# Altium integrated library Actel ACT 3.IntLib: 167 symbols (part 6 of 11)
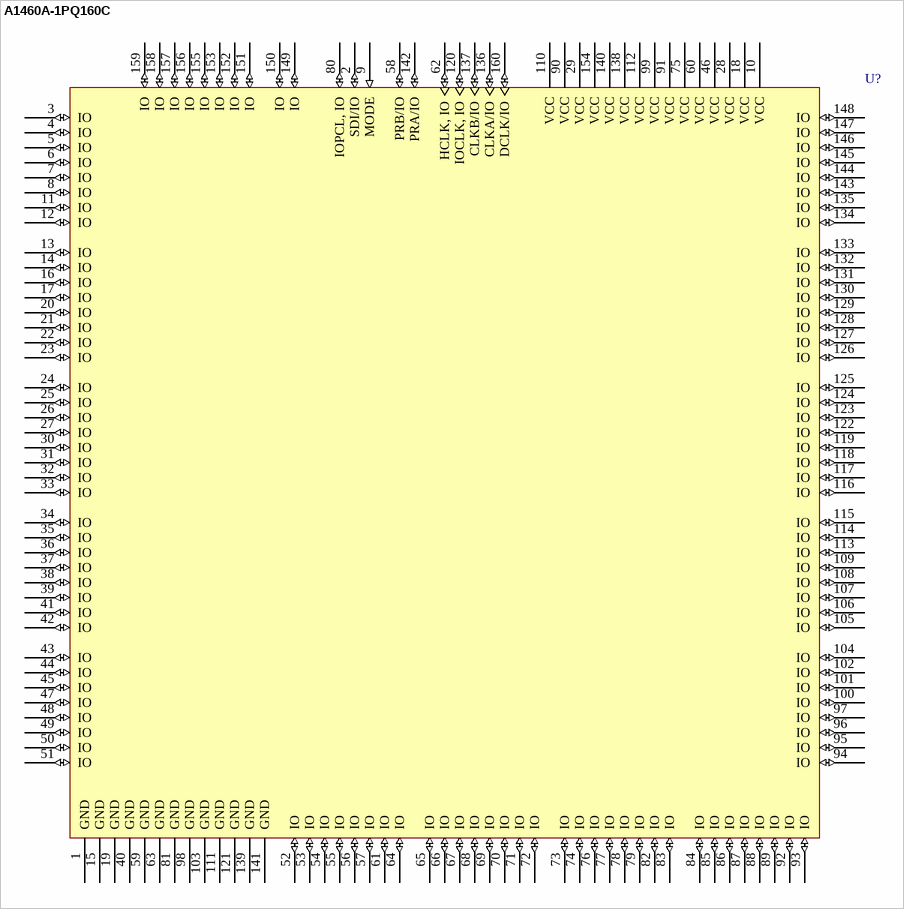
[diagram p116: symbol A1460A-1PQ160C]

## A1460A-1PQ160C
designator U?
ACT 3 Series 5V FPGA, 131 User I/Os, 160 pin PQFP, Speed Grade 1, Commercial Grade; Published: 24-Nov-2000; LatestRevisionDate: 13-Apr-2006; LatestRevisionNote: IPC-7351 Footprint Added.; DatasheetVersion: Sep-1997; PackageVersion: v9.2, Apr-2006; PackageReference: PQ160; Publisher: Altium Limited; PackageDescription: 160-Pin Plastic Quad Flat Pack (PQ160); Code_JEDEC: MS-022-DD-1; Code_IPC: QFP65P3120X3120-160; ComponentLink1Description: Manufacturer Link; ComponentLink1URL: http://www.actel.com/; ComponentLink2Description: DataSheet; ComponentLink2URL: http://www.actel.com/documents/ACT3DS.pdf
footprint PQ160_N (QFP, 160-Leads, Body 28 x 28mm, Pitch 0.65mm, IPC Medium Density)
footprint PQ160_L (QFP, 160-Leads, Body 28 x 28mm, Pitch 0.65mm, IPC High Density)
footprint PQ160_M (QFP, 160-Leads, Body 28 x 28mm, Pitch 0.65mm, IPC Low Density)
3D model A1460A-PQ160 (160-Pin Plastic Quad Flat Pack (PQ160))
pins: 1 GND (power), 2 SDI/IO (io), 3 IO (io), 4 IO (io), 5 IO (io), 6 IO (io), 7 IO (io), 8 IO (io), 9 MODE (in), 10 VCC (power), 11 IO (io), 12 IO (io), 13 IO (io), 14 IO (io), 15 GND (power), 16 IO (io), 17 IO (io), 18 VCC (power), 19 GND (power), 20 IO (io), 21 IO (io), 22 IO (io), 23 IO (io), 24 IO (io), 25 IO (io), 26 IO (io), 27 IO (io), 28 VCC (power), 29 VCC (power), 30 IO (io), 31 IO (io), 32 IO (io), 33 IO (io), 34 IO (io), 35 IO (io), 36 IO (io), 37 IO (io), 38 IO (io), 39 IO (io), 40 GND (power), 41 IO (io), 42 IO (io), 43 IO (io), 44 IO (io), 45 IO (io), 46 VCC (power), 47 IO (io), 48 IO (io), 49 IO (io), 50 IO (io), 51 IO (io), 52 IO (io), 53 IO (io), 54 IO (io), 55 IO (io), 56 IO (io), 57 IO (io), 58 PRB/IO (io), 59 GND (power), 60 VCC (power), 61 IO (io), 62 HCLK, IO (io), 63 GND (power), 64 IO (io), 65 IO (io), 66 IO (io), 67 IO (io), 68 IO (io), 69 IO (io), 70 IO (io), 71 IO (io), 72 IO (io), 73 IO (io), 74 IO (io), 75 VCC (power), 76 IO (io), 77 IO (io), 78 IO (io), 79 IO (io), 80 IOPCL, IO (io), 81 GND (power), 82 IO (io), 83 IO (io), 84 IO (io), 85 IO (io), 86 IO (io), 87 IO (io), 88 IO (io), 89 IO (io), 90 VCC (power), 91 VCC (power), 92 IO (io), 93 IO (io), 94 IO (io), 95 IO (io), 96 IO (io), 97 IO (io), 98 GND (power), 99 VCC (power), 100 IO (io), 101 IO (io), 102 IO (io), 103 GND (power), 104 IO (io), 105 IO (io), 106 IO (io), 107 IO (io), 108 IO (io), 109 IO (io), 110 VCC (power), 111 GND (power), 112 VCC (power), 113 IO (io), 114 IO (io), 115 IO (io), 116 IO (io), 117 IO (io), 118 IO (io), 119 IO (io), 120 IOCLK, IO (io), 121 GND (power), 122 IO (io), 123 IO (io), 124 IO (io), 125 IO (io), 126 IO (io), 127 IO (io), 128 IO (io), 129 IO (io), 130 IO (io), 131 IO (io), 132 IO (io), 133 IO (io), 134 IO (io), 135 IO (io), 136 CLKA/IO (io), 137 CLKB/IO (io), 138 VCC (power), 139 GND (power), 140 VCC (power), 141 GND (power), 142 PRA/IO (io), 143 IO (io), 144 IO (io), 145 IO (io), 146 IO (io), 147 IO (io), 148 IO (io), 149 IO (io), 150 IO (io), 151 IO (io), 152 IO (io), 153 IO (io), 154 VCC (power), 155 IO (io), 156 IO (io), 157 IO (io), 158 IO (io), 159 IO (io), 160 DCLK/IO (io)

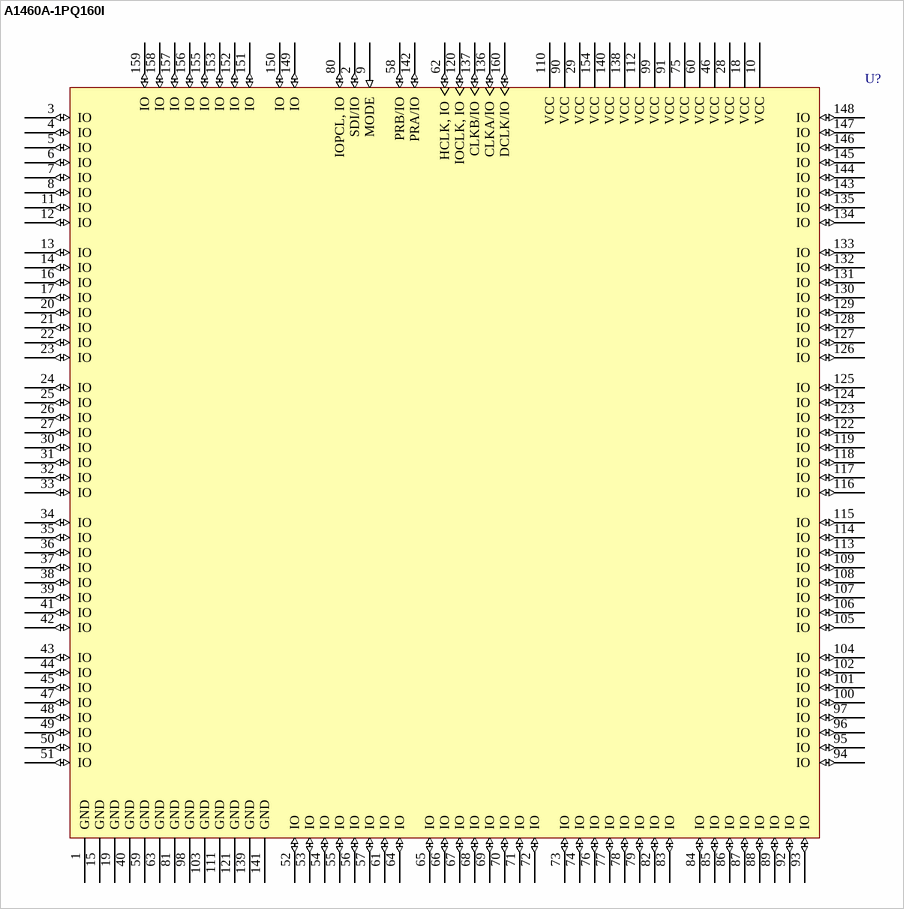
[diagram p40: symbol A1460A-1PQ160I]

## A1460A-1PQ160I
designator U?
ACT 3 Series 5V FPGA, 131 User I/Os, 160 pin PQFP, Speed Grade 1, Industrial Grade; Published: 24-Nov-2000; LatestRevisionDate: 13-Apr-2006; LatestRevisionNote: IPC-7351 Footprint Added.; DatasheetVersion: Sep-1997; PackageVersion: v9.2, Apr-2006; PackageReference: PQ160; Publisher: Altium Limited; PackageDescription: 160-Pin Plastic Quad Flat Pack (PQ160); Code_JEDEC: MS-022-DD-1; Code_IPC: QFP65P3120X3120-160; ComponentLink1Description: Manufacturer Link; ComponentLink1URL: http://www.actel.com/; ComponentLink2Description: DataSheet; ComponentLink2URL: http://www.actel.com/documents/ACT3DS.pdf
footprint PQ160_N (QFP, 160-Leads, Body 28 x 28mm, Pitch 0.65mm, IPC Medium Density)
footprint PQ160_L (QFP, 160-Leads, Body 28 x 28mm, Pitch 0.65mm, IPC High Density)
footprint PQ160_M (QFP, 160-Leads, Body 28 x 28mm, Pitch 0.65mm, IPC Low Density)
3D model A1460A-PQ160 (160-Pin Plastic Quad Flat Pack (PQ160))
pins: 1 GND (power), 2 SDI/IO (io), 3 IO (io), 4 IO (io), 5 IO (io), 6 IO (io), 7 IO (io), 8 IO (io), 9 MODE (in), 10 VCC (power), 11 IO (io), 12 IO (io), 13 IO (io), 14 IO (io), 15 GND (power), 16 IO (io), 17 IO (io), 18 VCC (power), 19 GND (power), 20 IO (io), 21 IO (io), 22 IO (io), 23 IO (io), 24 IO (io), 25 IO (io), 26 IO (io), 27 IO (io), 28 VCC (power), 29 VCC (power), 30 IO (io), 31 IO (io), 32 IO (io), 33 IO (io), 34 IO (io), 35 IO (io), 36 IO (io), 37 IO (io), 38 IO (io), 39 IO (io), 40 GND (power), 41 IO (io), 42 IO (io), 43 IO (io), 44 IO (io), 45 IO (io), 46 VCC (power), 47 IO (io), 48 IO (io), 49 IO (io), 50 IO (io), 51 IO (io), 52 IO (io), 53 IO (io), 54 IO (io), 55 IO (io), 56 IO (io), 57 IO (io), 58 PRB/IO (io), 59 GND (power), 60 VCC (power), 61 IO (io), 62 HCLK, IO (io), 63 GND (power), 64 IO (io), 65 IO (io), 66 IO (io), 67 IO (io), 68 IO (io), 69 IO (io), 70 IO (io), 71 IO (io), 72 IO (io), 73 IO (io), 74 IO (io), 75 VCC (power), 76 IO (io), 77 IO (io), 78 IO (io), 79 IO (io), 80 IOPCL, IO (io), 81 GND (power), 82 IO (io), 83 IO (io), 84 IO (io), 85 IO (io), 86 IO (io), 87 IO (io), 88 IO (io), 89 IO (io), 90 VCC (power), 91 VCC (power), 92 IO (io), 93 IO (io), 94 IO (io), 95 IO (io), 96 IO (io), 97 IO (io), 98 GND (power), 99 VCC (power), 100 IO (io), 101 IO (io), 102 IO (io), 103 GND (power), 104 IO (io), 105 IO (io), 106 IO (io), 107 IO (io), 108 IO (io), 109 IO (io), 110 VCC (power), 111 GND (power), 112 VCC (power), 113 IO (io), 114 IO (io), 115 IO (io), 116 IO (io), 117 IO (io), 118 IO (io), 119 IO (io), 120 IOCLK, IO (io), 121 GND (power), 122 IO (io), 123 IO (io), 124 IO (io), 125 IO (io), 126 IO (io), 127 IO (io), 128 IO (io), 129 IO (io), 130 IO (io), 131 IO (io), 132 IO (io), 133 IO (io), 134 IO (io), 135 IO (io), 136 CLKA/IO (io), 137 CLKB/IO (io), 138 VCC (power), 139 GND (power), 140 VCC (power), 141 GND (power), 142 PRA/IO (io), 143 IO (io), 144 IO (io), 145 IO (io), 146 IO (io), 147 IO (io), 148 IO (io), 149 IO (io), 150 IO (io), 151 IO (io), 152 IO (io), 153 IO (io), 154 VCC (power), 155 IO (io), 156 IO (io), 157 IO (io), 158 IO (io), 159 IO (io), 160 DCLK/IO (io)

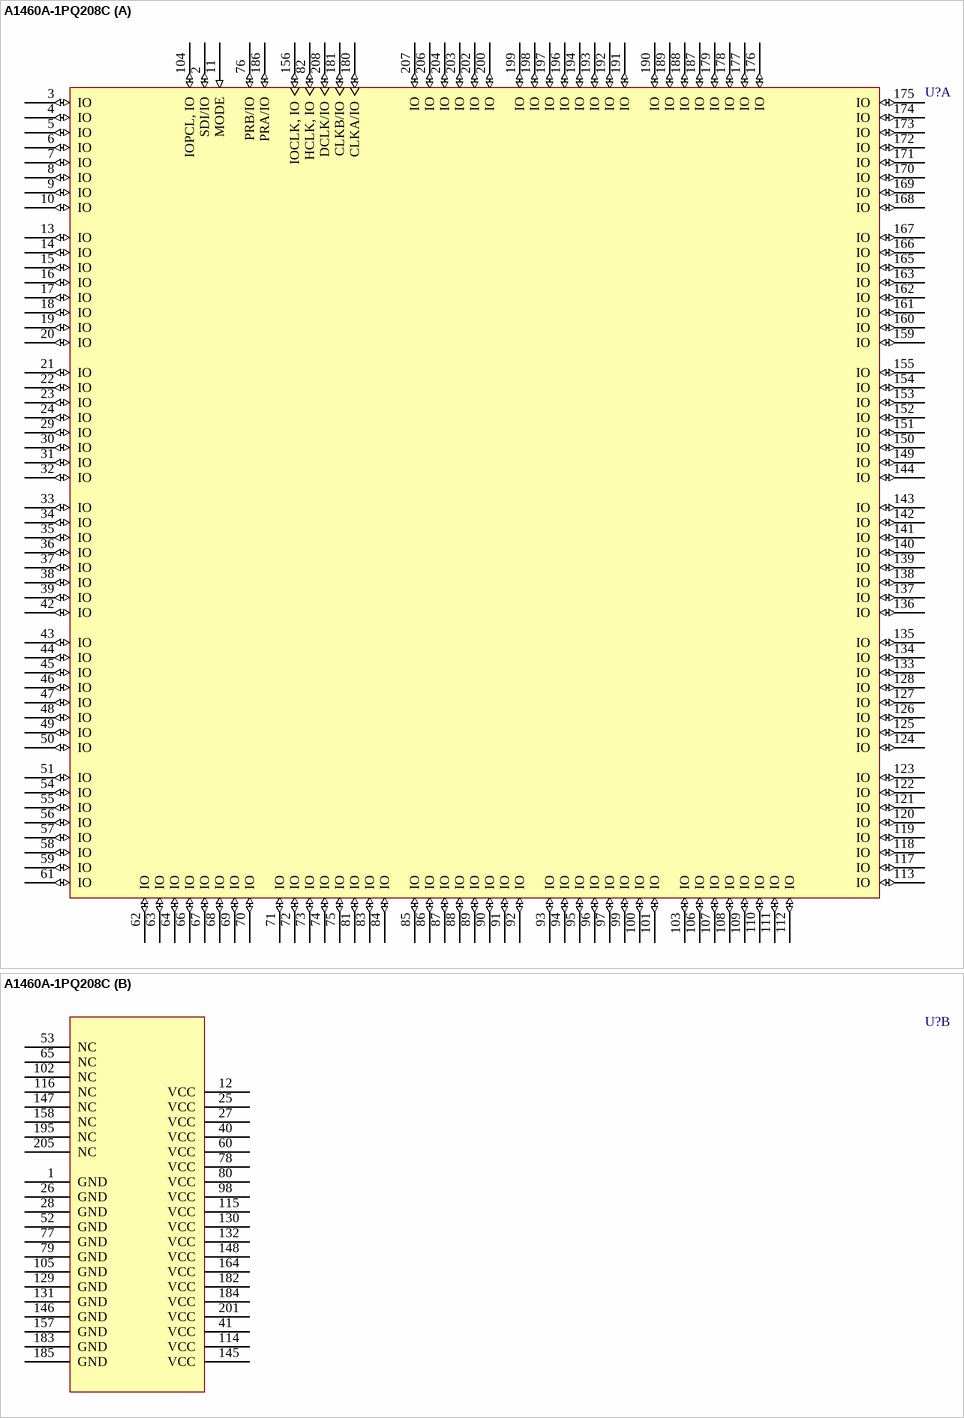
[diagram p41: symbol A1460A-1PQ208C]

## A1460A-1PQ208C
designator U?
ACT 3 Series 5V FPGA, 167 User I/Os, 208 pin PQFP, Speed Grade 1, Commercial Grade; Published: 24-Nov-2000; LatestRevisionDate: 13-Apr-2006; LatestRevisionNote: IPC-7351 Footprint Added.; DatasheetVersion: Sep-1997; PackageVersion: v9.2, Apr-2006; PackageReference: PQ208; Publisher: Altium Limited; PackageDescription: 208-Pin Plastic Quad Flat Pack (PQ208); Code_JEDEC: MS-029-FA-1; ComponentLink1Description: Manufacturer Link; ComponentLink1URL: http://www.actel.com/; ComponentLink2Description: DataSheet; ComponentLink2URL: http://www.actel.com/documents/ACT3DS.pdf
footprint PQ208_N (Shrink QFP, 208-Leads, Body 28x28mm, Pitch 0.5mm, IPC Medium Density)
footprint PQ208_L (Shrink QFP, 208-Leads, Body 28x28mm, Pitch 0.5mm, IPC High Density)
footprint PQ208_M (Shrink QFP, 208-Leads, Body 28x28mm, Pitch 0.5mm, IPC Low Density)
3D model A1460A-PQ208 (208-Pin Plastic Quad Flat Pack (PQ208))
part A pins: 2 SDI/IO (io), 3 IO (io), 4 IO (io), 5 IO (io), 6 IO (io), 7 IO (io), 8 IO (io), 9 IO (io), 10 IO (io), 11 MODE (in), 13 IO (io), 14 IO (io), 15 IO (io), 16 IO (io), 17 IO (io), 18 IO (io), 19 IO (io), 20 IO (io), 21 IO (io), 22 IO (io), 23 IO (io), 24 IO (io), 29 IO (io), 30 IO (io), 31 IO (io), 32 IO (io), 33 IO (io), 34 IO (io), 35 IO (io), 36 IO (io), 37 IO (io), 38 IO (io), 39 IO (io), 42 IO (io), 43 IO (io), 44 IO (io), 45 IO (io), 46 IO (io), 47 IO (io), 48 IO (io), 49 IO (io), 50 IO (io), 51 IO (io), 54 IO (io), 55 IO (io), 56 IO (io), 57 IO (io), 58 IO (io), 59 IO (io), 61 IO (io), 62 IO (io), 63 IO (io), 64 IO (io), 66 IO (io), 67 IO (io), 68 IO (io), 69 IO (io), 70 IO (io), 71 IO (io), 72 IO (io), 73 IO (io), 74 IO (io), 75 IO (io), 76 PRB/IO (io), 81 IO (io), 82 HCLK, IO (io), 83 IO (io), 84 IO (io), 85 IO (io), 86 IO (io), 87 IO (io), 88 IO (io), 89 IO (io), 90 IO (io), 91 IO (io), 92 IO (io), 93 IO (io), 94 IO (io), 95 IO (io), 96 IO (io), 97 IO (io), 99 IO (io), 100 IO (io), 101 IO (io), 103 IO (io), 104 IOPCL, IO (io), 106 IO (io), 107 IO (io), 108 IO (io), 109 IO (io), 110 IO (io), 111 IO (io), 112 IO (io), 113 IO (io), 117 IO (io), 118 IO (io), 119 IO (io), 120 IO (io), 121 IO (io), 122 IO (io), 123 IO (io), 124 IO (io), 125 IO (io), 126 IO (io), 127 IO (io), 128 IO (io), 133 IO (io), 134 IO (io), 135 IO (io), 136 IO (io), 137 IO (io), 138 IO (io), 139 IO (io), 140 IO (io), 141 IO (io), 142 IO (io), 143 IO (io), 144 IO (io), 149 IO (io), 150 IO (io), 151 IO (io), 152 IO (io), 153 IO (io), 154 IO (io), 155 IO (io), 156 IOCLK, IO (io), 159 IO (io), 160 IO (io), 161 IO (io), 162 IO (io), 163 IO (io), 165 IO (io), 166 IO (io), 167 IO (io), 168 IO (io), 169 IO (io), 170 IO (io), 171 IO (io), 172 IO (io), 173 IO (io), 174 IO (io), 175 IO (io), 176 IO (io), 177 IO (io), 178 IO (io), 179 IO (io), 180 CLKA/IO (io), 181 CLKB/IO (io), 186 PRA/IO (io), 187 IO (io), 188 IO (io), 189 IO (io), 190 IO (io), 191 IO (io), 192 IO (io), 193 IO (io), 194 IO (io), 196 IO (io), 197 IO (io), 198 IO (io), 199 IO (io), 200 IO (io), 202 IO (io), 203 IO (io), 204 IO (io), 206 IO (io), 207 IO (io), 208 DCLK/IO (io)
part B pins: 1 GND (power), 12 VCC (power), 25 VCC (power), 26 GND (power), 27 VCC (power), 28 GND (power), 40 VCC (power), 41 VCC (power), 52 GND (power), 53 NC, 60 VCC (power), 65 NC, 77 GND (power), 78 VCC (power), 79 GND (power), 80 VCC (power), 98 VCC (power), 102 NC, 105 GND (power), 114 VCC (power), 115 VCC (power), 116 NC, 129 GND (power), 130 VCC (power), 131 GND (power), 132 VCC (power), 145 VCC (power), 146 GND (power), 147 NC, 148 VCC (power), 157 GND (power), 158 NC, 164 VCC (power), 182 VCC (power), 183 GND (power), 184 VCC (power), 185 GND (power), 195 NC, 201 VCC (power), 205 NC

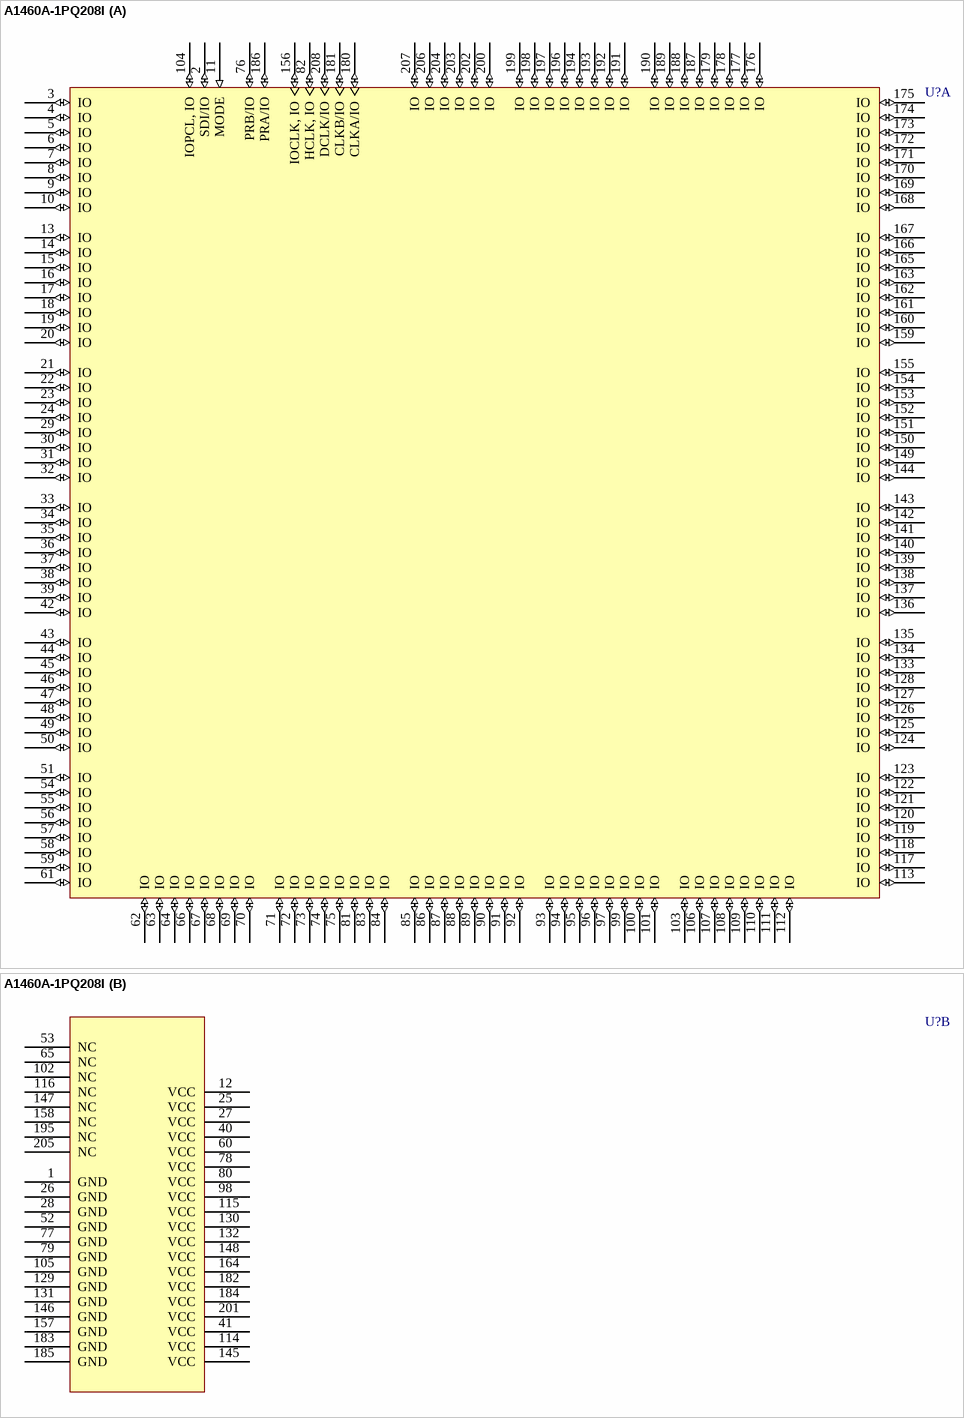
[diagram p42: symbol A1460A-1PQ208I]

## A1460A-1PQ208I
designator U?
ACT 3 Series 5V FPGA, 167 User I/Os, 208 pin PQFP, Speed Grade 1, Industrial Grade; Published: 24-Nov-2000; LatestRevisionDate: 13-Apr-2006; LatestRevisionNote: IPC-7351 Footprint Added.; DatasheetVersion: Sep-1997; PackageVersion: v9.2, Apr-2006; PackageReference: PQ208; Publisher: Altium Limited; PackageDescription: 208-Pin Plastic Quad Flat Pack (PQ208); Code_JEDEC: MS-029-FA-1; ComponentLink1Description: Manufacturer Link; ComponentLink1URL: http://www.actel.com/; ComponentLink2Description: DataSheet; ComponentLink2URL: http://www.actel.com/documents/ACT3DS.pdf
footprint PQ208_N (Shrink QFP, 208-Leads, Body 28x28mm, Pitch 0.5mm, IPC Medium Density)
footprint PQ208_L (Shrink QFP, 208-Leads, Body 28x28mm, Pitch 0.5mm, IPC High Density)
footprint PQ208_M (Shrink QFP, 208-Leads, Body 28x28mm, Pitch 0.5mm, IPC Low Density)
3D model A1460A-PQ208 (208-Pin Plastic Quad Flat Pack (PQ208))
part A pins: 2 SDI/IO (io), 3 IO (io), 4 IO (io), 5 IO (io), 6 IO (io), 7 IO (io), 8 IO (io), 9 IO (io), 10 IO (io), 11 MODE (in), 13 IO (io), 14 IO (io), 15 IO (io), 16 IO (io), 17 IO (io), 18 IO (io), 19 IO (io), 20 IO (io), 21 IO (io), 22 IO (io), 23 IO (io), 24 IO (io), 29 IO (io), 30 IO (io), 31 IO (io), 32 IO (io), 33 IO (io), 34 IO (io), 35 IO (io), 36 IO (io), 37 IO (io), 38 IO (io), 39 IO (io), 42 IO (io), 43 IO (io), 44 IO (io), 45 IO (io), 46 IO (io), 47 IO (io), 48 IO (io), 49 IO (io), 50 IO (io), 51 IO (io), 54 IO (io), 55 IO (io), 56 IO (io), 57 IO (io), 58 IO (io), 59 IO (io), 61 IO (io), 62 IO (io), 63 IO (io), 64 IO (io), 66 IO (io), 67 IO (io), 68 IO (io), 69 IO (io), 70 IO (io), 71 IO (io), 72 IO (io), 73 IO (io), 74 IO (io), 75 IO (io), 76 PRB/IO (io), 81 IO (io), 82 HCLK, IO (io), 83 IO (io), 84 IO (io), 85 IO (io), 86 IO (io), 87 IO (io), 88 IO (io), 89 IO (io), 90 IO (io), 91 IO (io), 92 IO (io), 93 IO (io), 94 IO (io), 95 IO (io), 96 IO (io), 97 IO (io), 99 IO (io), 100 IO (io), 101 IO (io), 103 IO (io), 104 IOPCL, IO (io), 106 IO (io), 107 IO (io), 108 IO (io), 109 IO (io), 110 IO (io), 111 IO (io), 112 IO (io), 113 IO (io), 117 IO (io), 118 IO (io), 119 IO (io), 120 IO (io), 121 IO (io), 122 IO (io), 123 IO (io), 124 IO (io), 125 IO (io), 126 IO (io), 127 IO (io), 128 IO (io), 133 IO (io), 134 IO (io), 135 IO (io), 136 IO (io), 137 IO (io), 138 IO (io), 139 IO (io), 140 IO (io), 141 IO (io), 142 IO (io), 143 IO (io), 144 IO (io), 149 IO (io), 150 IO (io), 151 IO (io), 152 IO (io), 153 IO (io), 154 IO (io), 155 IO (io), 156 IOCLK, IO (io), 159 IO (io), 160 IO (io), 161 IO (io), 162 IO (io), 163 IO (io), 165 IO (io), 166 IO (io), 167 IO (io), 168 IO (io), 169 IO (io), 170 IO (io), 171 IO (io), 172 IO (io), 173 IO (io), 174 IO (io), 175 IO (io), 176 IO (io), 177 IO (io), 178 IO (io), 179 IO (io), 180 CLKA/IO (io), 181 CLKB/IO (io), 186 PRA/IO (io), 187 IO (io), 188 IO (io), 189 IO (io), 190 IO (io), 191 IO (io), 192 IO (io), 193 IO (io), 194 IO (io), 196 IO (io), 197 IO (io), 198 IO (io), 199 IO (io), 200 IO (io), 202 IO (io), 203 IO (io), 204 IO (io), 206 IO (io), 207 IO (io), 208 DCLK/IO (io)
part B pins: 1 GND (power), 12 VCC (power), 25 VCC (power), 26 GND (power), 27 VCC (power), 28 GND (power), 40 VCC (power), 41 VCC (power), 52 GND (power), 53 NC, 60 VCC (power), 65 NC, 77 GND (power), 78 VCC (power), 79 GND (power), 80 VCC (power), 98 VCC (power), 102 NC, 105 GND (power), 114 VCC (power), 115 VCC (power), 116 NC, 129 GND (power), 130 VCC (power), 131 GND (power), 132 VCC (power), 145 VCC (power), 146 GND (power), 147 NC, 148 VCC (power), 157 GND (power), 158 NC, 164 VCC (power), 182 VCC (power), 183 GND (power), 184 VCC (power), 185 GND (power), 195 NC, 201 VCC (power), 205 NC

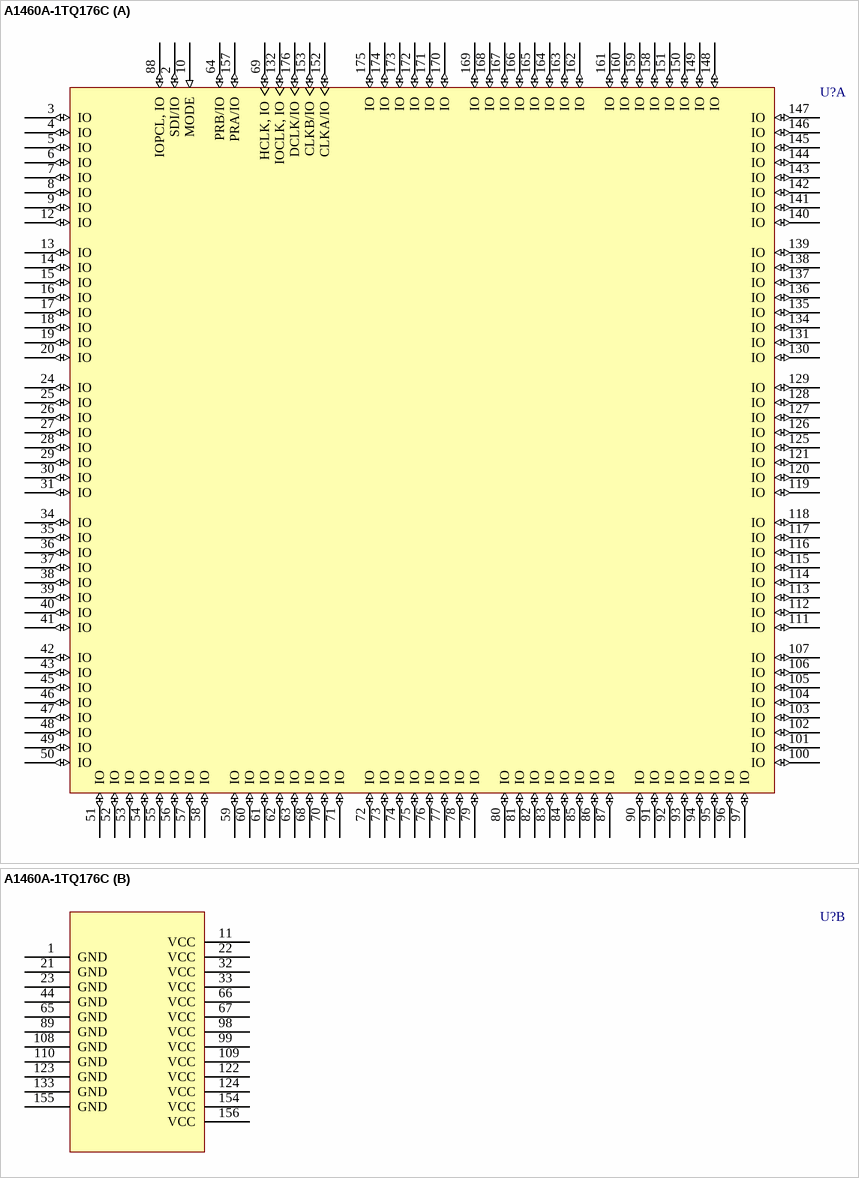
[diagram p43: symbol A1460A-1TQ176C]

## A1460A-1TQ176C
designator U?
ACT 3 Series 5V FPGA, 151 User I/Os, 176 pin TQFP, Speed Grade 1, Commercial Grade; Published: 24-Nov-2000; LatestRevisionDate: 13-Apr-2006; LatestRevisionNote: IPC-7351 Footprint Added.; DatasheetVersion: Sep-1997; PackageVersion: v9.2, Apr-2006; PackageReference: TQ176; Publisher: Altium Limited; PackageDescription: 176-Pin Plastic Quad Flat Pack (TQ176); Code_JEDEC: MS-026-BCA; ComponentLink1Description: Manufacturer Link; ComponentLink1URL: http://www.actel.com/; ComponentLink2Description: DataSheet; ComponentLink2URL: http://www.actel.com/documents/ACT3DS.pdf
footprint TQ176_N (Thin QFP, 176-Leads, Body 24x24mm, Pitch 0.5mm, IPC Medium Density)
footprint TQ176_L (Thin QFP, 176-Leads, Body 24x24mm, Pitch 0.5mm, IPC High Density)
footprint TQ176_M (Thin QFP, 176-Leads, Body 24x24mm, Pitch 0.5mm, IPC Low Density)
3D model A1460A-TQ176 (176-Pin Plastic Quad Flat Pack (TQ176))
part A pins: 2 SDI/IO (io), 3 IO (io), 4 IO (io), 5 IO (io), 6 IO (io), 7 IO (io), 8 IO (io), 9 IO (io), 10 MODE (in), 12 IO (io), 13 IO (io), 14 IO (io), 15 IO (io), 16 IO (io), 17 IO (io), 18 IO (io), 19 IO (io), 20 IO (io), 24 IO (io), 25 IO (io), 26 IO (io), 27 IO (io), 28 IO (io), 29 IO (io), 30 IO (io), 31 IO (io), 34 IO (io), 35 IO (io), 36 IO (io), 37 IO (io), 38 IO (io), 39 IO (io), 40 IO (io), 41 IO (io), 42 IO (io), 43 IO (io), 45 IO (io), 46 IO (io), 47 IO (io), 48 IO (io), 49 IO (io), 50 IO (io), 51 IO (io), 52 IO (io), 53 IO (io), 54 IO (io), 55 IO (io), 56 IO (io), 57 IO (io), 58 IO (io), 59 IO (io), 60 IO (io), 61 IO (io), 62 IO (io), 63 IO (io), 64 PRB/IO (io), 68 IO (io), 69 HCLK, IO (io), 70 IO (io), 71 IO (io), 72 IO (io), 73 IO (io), 74 IO (io), 75 IO (io), 76 IO (io), 77 IO (io), 78 IO (io), 79 IO (io), 80 IO (io), 81 IO (io), 82 IO (io), 83 IO (io), 84 IO (io), 85 IO (io), 86 IO (io), 87 IO (io), 88 IOPCL, IO (io), 90 IO (io), 91 IO (io), 92 IO (io), 93 IO (io), 94 IO (io), 95 IO (io), 96 IO (io), 97 IO (io), 100 IO (io), 101 IO (io), 102 IO (io), 103 IO (io), 104 IO (io), 105 IO (io), 106 IO (io), 107 IO (io), 111 IO (io), 112 IO (io), 113 IO (io), 114 IO (io), 115 IO (io), 116 IO (io), 117 IO (io), 118 IO (io), 119 IO (io), 120 IO (io), 121 IO (io), 125 IO (io), 126 IO (io), 127 IO (io), 128 IO (io), 129 IO (io), 130 IO (io), 131 IO (io), 132 IOCLK, IO (io), 134 IO (io), 135 IO (io), 136 IO (io), 137 IO (io), 138 IO (io), 139 IO (io), 140 IO (io), 141 IO (io), 142 IO (io), 143 IO (io), 144 IO (io), 145 IO (io), 146 IO (io), 147 IO (io), 148 IO (io), 149 IO (io), 150 IO (io), 151 IO (io), 152 CLKA/IO (io), 153 CLKB/IO (io), 157 PRA/IO (io), 158 IO (io), 159 IO (io), 160 IO (io), 161 IO (io), 162 IO (io), 163 IO (io), 164 IO (io), 165 IO (io), 166 IO (io), 167 IO (io), 168 IO (io), 169 IO (io), 170 IO (io), 171 IO (io), 172 IO (io), 173 IO (io), 174 IO (io), 175 IO (io), 176 DCLK/IO (io)
part B pins: 1 GND (power), 11 VCC (power), 21 GND (power), 22 VCC (power), 23 GND (power), 32 VCC (power), 33 VCC (power), 44 GND (power), 65 GND (power), 66 VCC (power), 67 VCC (power), 89 GND (power), 98 VCC (power), 99 VCC (power), 108 GND (power), 109 VCC (power), 110 GND (power), 122 VCC (power), 123 GND (power), 124 VCC (power), 133 GND (power), 154 VCC (power), 155 GND (power), 156 VCC (power)

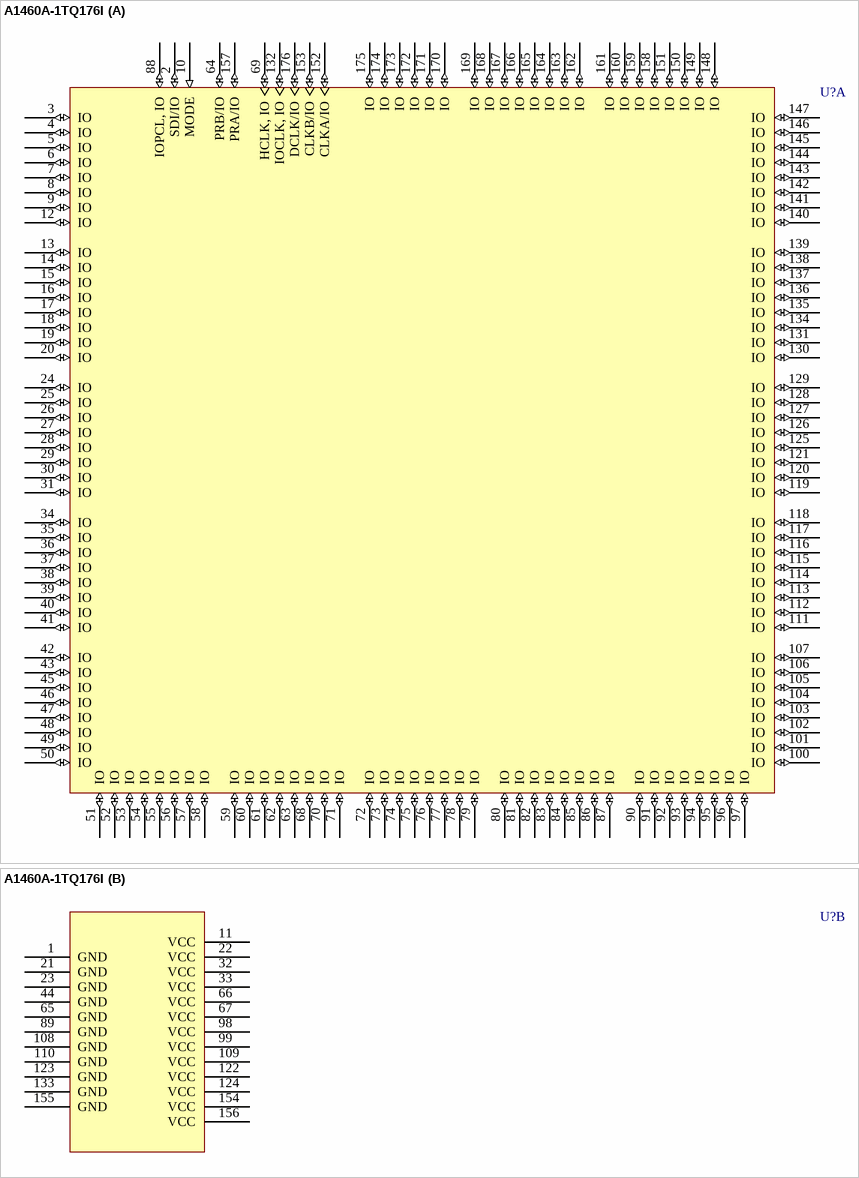
[diagram p44: symbol A1460A-1TQ176I]

## A1460A-1TQ176I
designator U?
ACT 3 Series 5V FPGA, 151 User I/Os, 176 pin TQFP, Speed Grade 1, Industrial Grade; Published: 17-Sep-2003; LatestRevisionDate: 13-Apr-2006; LatestRevisionNote: IPC-7351 Footprint Added.; DatasheetVersion: Sep-1997; PackageVersion: v9.2, Apr-2006; PackageReference: TQ176; Publisher: Altium Limited; PackageDescription: 176-Pin Plastic Quad Flat Pack (TQ176); Code_JEDEC: MS-026-BCA; ComponentLink1Description: Manufacturer Link; ComponentLink1URL: http://www.actel.com/; ComponentLink2Description: DataSheet; ComponentLink2URL: http://www.actel.com/documents/ACT3DS.pdf
footprint TQ176_N (Thin QFP, 176-Leads, Body 24x24mm, Pitch 0.5mm, IPC Medium Density)
footprint TQ176_L (Thin QFP, 176-Leads, Body 24x24mm, Pitch 0.5mm, IPC High Density)
footprint TQ176_M (Thin QFP, 176-Leads, Body 24x24mm, Pitch 0.5mm, IPC Low Density)
3D model A1460A-TQ176 (176-Pin Plastic Quad Flat Pack (TQ176))
part A pins: 2 SDI/IO (io), 3 IO (io), 4 IO (io), 5 IO (io), 6 IO (io), 7 IO (io), 8 IO (io), 9 IO (io), 10 MODE (in), 12 IO (io), 13 IO (io), 14 IO (io), 15 IO (io), 16 IO (io), 17 IO (io), 18 IO (io), 19 IO (io), 20 IO (io), 24 IO (io), 25 IO (io), 26 IO (io), 27 IO (io), 28 IO (io), 29 IO (io), 30 IO (io), 31 IO (io), 34 IO (io), 35 IO (io), 36 IO (io), 37 IO (io), 38 IO (io), 39 IO (io), 40 IO (io), 41 IO (io), 42 IO (io), 43 IO (io), 45 IO (io), 46 IO (io), 47 IO (io), 48 IO (io), 49 IO (io), 50 IO (io), 51 IO (io), 52 IO (io), 53 IO (io), 54 IO (io), 55 IO (io), 56 IO (io), 57 IO (io), 58 IO (io), 59 IO (io), 60 IO (io), 61 IO (io), 62 IO (io), 63 IO (io), 64 PRB/IO (io), 68 IO (io), 69 HCLK, IO (io), 70 IO (io), 71 IO (io), 72 IO (io), 73 IO (io), 74 IO (io), 75 IO (io), 76 IO (io), 77 IO (io), 78 IO (io), 79 IO (io), 80 IO (io), 81 IO (io), 82 IO (io), 83 IO (io), 84 IO (io), 85 IO (io), 86 IO (io), 87 IO (io), 88 IOPCL, IO (io), 90 IO (io), 91 IO (io), 92 IO (io), 93 IO (io), 94 IO (io), 95 IO (io), 96 IO (io), 97 IO (io), 100 IO (io), 101 IO (io), 102 IO (io), 103 IO (io), 104 IO (io), 105 IO (io), 106 IO (io), 107 IO (io), 111 IO (io), 112 IO (io), 113 IO (io), 114 IO (io), 115 IO (io), 116 IO (io), 117 IO (io), 118 IO (io), 119 IO (io), 120 IO (io), 121 IO (io), 125 IO (io), 126 IO (io), 127 IO (io), 128 IO (io), 129 IO (io), 130 IO (io), 131 IO (io), 132 IOCLK, IO (io), 134 IO (io), 135 IO (io), 136 IO (io), 137 IO (io), 138 IO (io), 139 IO (io), 140 IO (io), 141 IO (io), 142 IO (io), 143 IO (io), 144 IO (io), 145 IO (io), 146 IO (io), 147 IO (io), 148 IO (io), 149 IO (io), 150 IO (io), 151 IO (io), 152 CLKA/IO (io), 153 CLKB/IO (io), 157 PRA/IO (io), 158 IO (io), 159 IO (io), 160 IO (io), 161 IO (io), 162 IO (io), 163 IO (io), 164 IO (io), 165 IO (io), 166 IO (io), 167 IO (io), 168 IO (io), 169 IO (io), 170 IO (io), 171 IO (io), 172 IO (io), 173 IO (io), 174 IO (io), 175 IO (io), 176 DCLK/IO (io)
part B pins: 1 GND (power), 11 VCC (power), 21 GND (power), 22 VCC (power), 23 GND (power), 32 VCC (power), 33 VCC (power), 44 GND (power), 65 GND (power), 66 VCC (power), 67 VCC (power), 89 GND (power), 98 VCC (power), 99 VCC (power), 108 GND (power), 109 VCC (power), 110 GND (power), 122 VCC (power), 123 GND (power), 124 VCC (power), 133 GND (power), 154 VCC (power), 155 GND (power), 156 VCC (power)

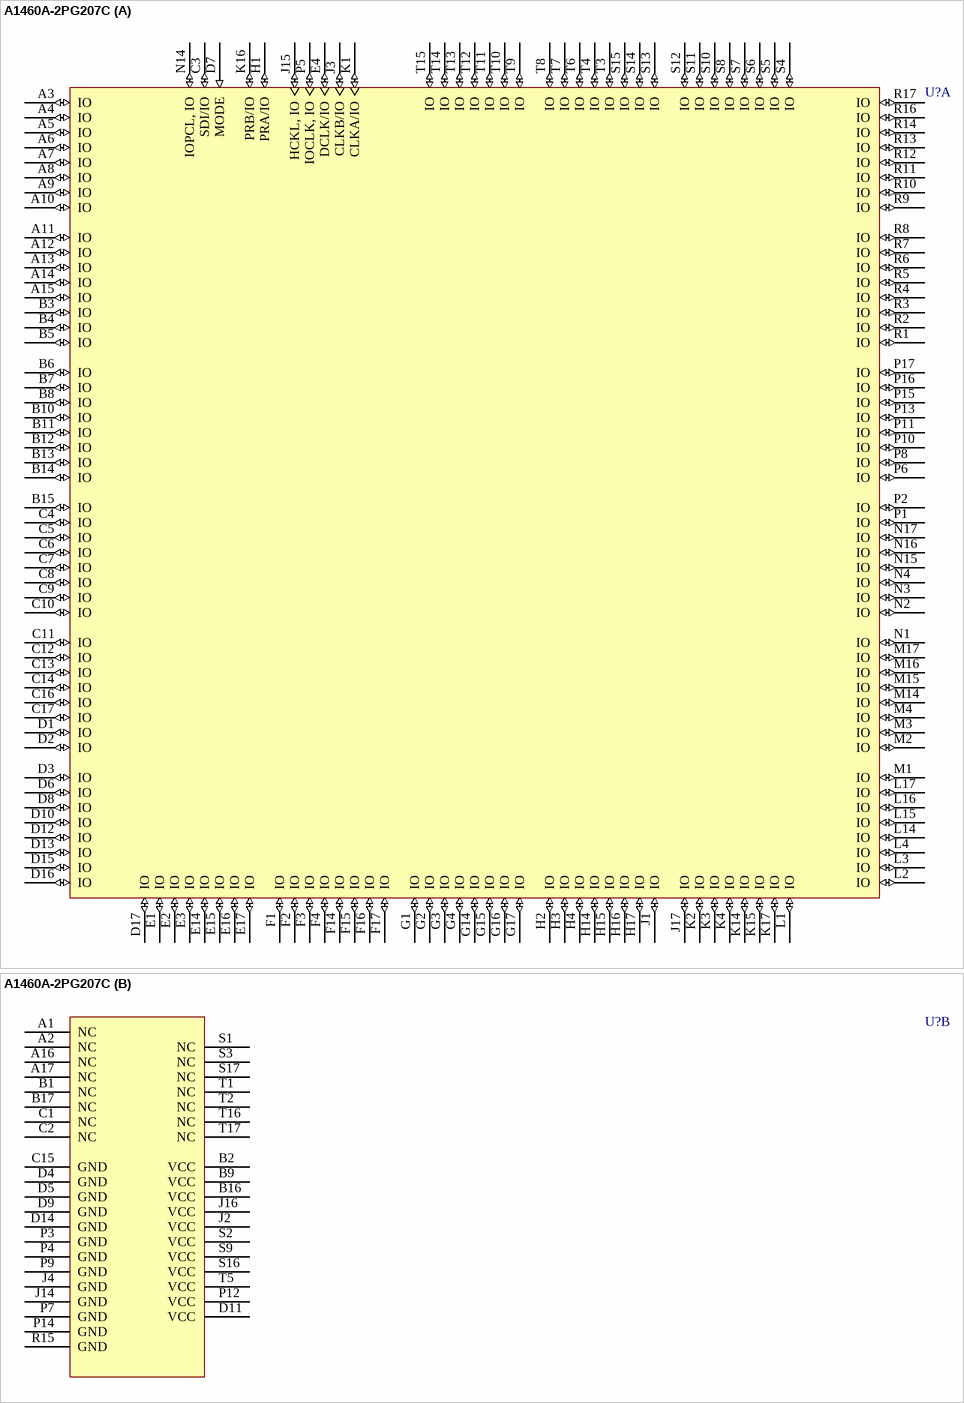
[diagram p45: symbol A1460A-2PG207C]

## A1460A-2PG207C
designator U?
ACT 3 Series 5V FPGA, 168 User I/Os, 207 pin CPGA, Speed Grade 2, Commercial Grade; Published: 24-Nov-2000; LatestRevisionDate: 04-Mar-2005; LatestRevisionNote: Stylized 3D Model Added.; DatasheetVersion: Sep-1997; PackageVersion: v9.2, Apr-2006; PackageReference: PG207; Publisher: Altium Limited; PackageDescription: 207-Pin Ceramic Pin Grid Array (PG207); ComponentLink1Description: Manufacturer Link; ComponentLink1URL: http://www.actel.com/; ComponentLink2Description: DataSheet; ComponentLink2URL: http://www.actel.com/documents/ACT3DS.pdf
footprint PG207 (PGA, 208-Leads, Body 45x45mm, Pitch 2.54mm)
3D model A1460A-PG207 (207-Pin Ceramic Pin Grid Array (PG207))
part A pins: A3 IO (io), A4 IO (io), A5 IO (io), A6 IO (io), A7 IO (io), A8 IO (io), A9 IO (io), A10 IO (io), A11 IO (io), A12 IO (io), A13 IO (io), A14 IO (io), A15 IO (io), B3 IO (io), B4 IO (io), B5 IO (io), B6 IO (io), B7 IO (io), B8 IO (io), B10 IO (io), B11 IO (io), B12 IO (io), B13 IO (io), B14 IO (io), B15 IO (io), C3 SDI/IO (io), C4 IO (io), C5 IO (io), C6 IO (io), C7 IO (io), C8 IO (io), C9 IO (io), C10 IO (io), C11 IO (io), C12 IO (io), C13 IO (io), C14 IO (io), C16 IO (io), C17 IO (io), D1 IO (io), D2 IO (io), D3 IO (io), D6 IO (io), D7 MODE (in), D8 IO (io), D10 IO (io), D12 IO (io), D13 IO (io), D15 IO (io), D16 IO (io), D17 IO (io), E1 IO (io), E2 IO (io), E3 IO (io), E4 DCLK/IO (io), E14 IO (io), E15 IO (io), E16 IO (io), E17 IO (io), F1 IO (io), F2 IO (io), F3 IO (io), F4 IO (io), F14 IO (io), F15 IO (io), F16 IO (io), F17 IO (io), G1 IO (io), G2 IO (io), G3 IO (io), G4 IO (io), G14 IO (io), G15 IO (io), G16 IO (io), G17 IO (io), H1 PRA/IO (io), H2 IO (io), H3 IO (io), H4 IO (io), H14 IO (io), H15 IO (io), H16 IO (io), H17 IO (io), J1 IO (io), J3 CLKB/IO (io), J15 HCKL, IO (io), J17 IO (io), K1 CLKA/IO (io), K2 IO (io), K3 IO (io), K4 IO (io), K14 IO (io), K15 IO (io), K16 PRB/IO (io), K17 IO (io), L1 IO (io), L2 IO (io), L3 IO (io), L4 IO (io), L14 IO (io), L15 IO (io), L16 IO (io), L17 IO (io), M1 IO (io), M2 IO (io), M3 IO (io), M4 IO (io), M14 IO (io), M15 IO (io), M16 IO (io), M17 IO (io), N1 IO (io), N2 IO (io), N3 IO (io), N4 IO (io), N14 IOPCL, IO (io), N15 IO (io), N16 IO (io), N17 IO (io), P1 IO (io), P2 IO (io), P5 IOCLK, IO (io), P6 IO (io), P8 IO (io), P10 IO (io), P11 IO (io), P13 IO (io), P15 IO (io), P16 IO (io), P17 IO (io), R1 IO (io), R2 IO (io), R3 IO (io), R4 IO (io), R5 IO (io), R6 IO (io), R7 IO (io), R8 IO (io), R9 IO (io), R10 IO (io), R11 IO (io), R12 IO (io), R13 IO (io), R14 IO (io), R16 IO (io), R17 IO (io), S4 IO (io), S5 IO (io), S6 IO (io), S7 IO (io), S8 IO (io), S10 IO (io), S11 IO (io), S12 IO (io), S13 IO (io), S14 IO (io), S15 IO (io), T3 IO (io), T4 IO (io), T6 IO (io), T7 IO (io), T8 IO (io), T9 IO (io), T10 IO (io), T11 IO (io), T12 IO (io), T13 IO (io), T14 IO (io), T15 IO (io)
part B pins: A1 NC, A2 NC, A16 NC, A17 NC, B1 NC, B2 VCC (power), B9 VCC (power), B16 VCC (power), B17 NC, C1 NC, C2 NC, C15 GND (power), D4 GND (power), D5 GND (power), D9 GND (power), D11 VCC (power), D14 GND (power), J2 VCC (power), J4 GND (power), J14 GND (power), J16 VCC (power), P3 GND (power), P4 GND (power), P7 GND (power), P9 GND (power), P12 VCC (power), P14 GND (power), R15 GND (power), S1 NC, S2 VCC (power), S3 NC, S9 VCC (power), S16 VCC (power), S17 NC, T1 NC, T2 NC, T5 VCC (power), T16 NC, T17 NC

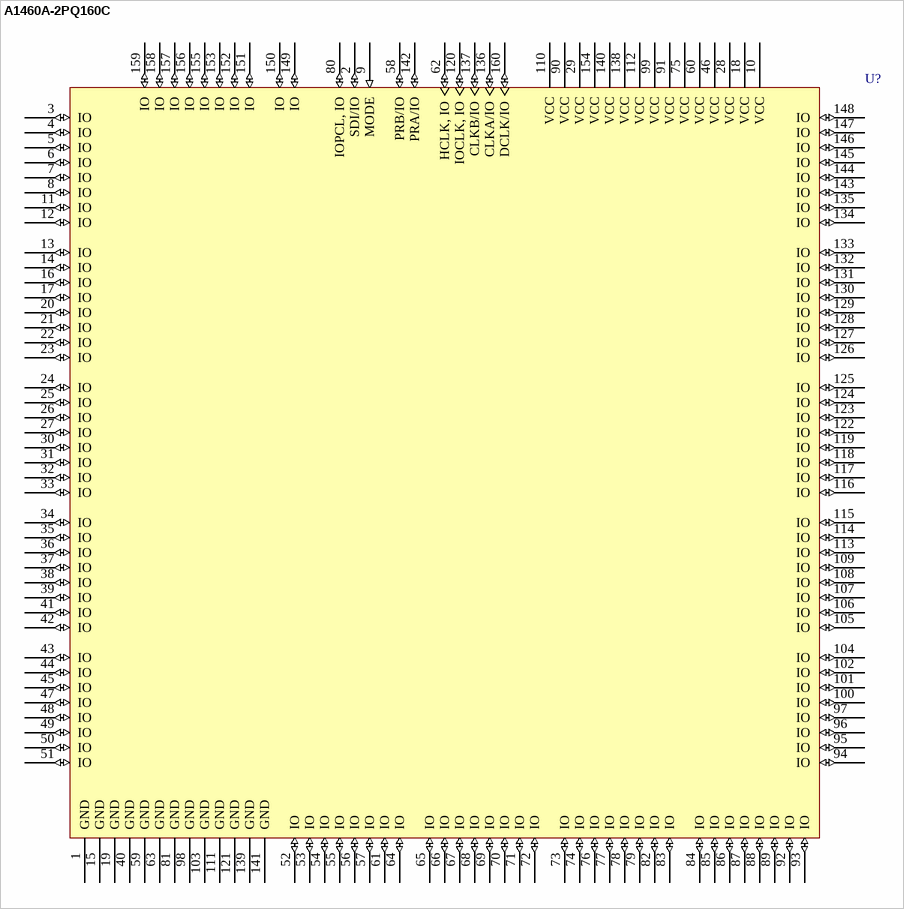
[diagram p46: symbol A1460A-2PQ160C]

## A1460A-2PQ160C
designator U?
ACT 3 Series 5V FPGA, 131 User I/Os, 160 pin PQFP, Speed Grade 2, Commercial Grade; Published: 24-Nov-2000; LatestRevisionDate: 13-Apr-2006; LatestRevisionNote: IPC-7351 Footprint Added.; DatasheetVersion: Sep-1997; PackageVersion: v9.2, Apr-2006; PackageReference: PQ160; Publisher: Altium Limited; PackageDescription: 160-Pin Plastic Quad Flat Pack (PQ160); Code_JEDEC: MS-022-DD-1; Code_IPC: QFP65P3120X3120-160; ComponentLink1Description: Manufacturer Link; ComponentLink1URL: http://www.actel.com/; ComponentLink2Description: DataSheet; ComponentLink2URL: http://www.actel.com/documents/ACT3DS.pdf
footprint PQ160_N (QFP, 160-Leads, Body 28 x 28mm, Pitch 0.65mm, IPC Medium Density)
footprint PQ160_L (QFP, 160-Leads, Body 28 x 28mm, Pitch 0.65mm, IPC High Density)
footprint PQ160_M (QFP, 160-Leads, Body 28 x 28mm, Pitch 0.65mm, IPC Low Density)
3D model A1460A-PQ160 (160-Pin Plastic Quad Flat Pack (PQ160))
pins: 1 GND (power), 2 SDI/IO (io), 3 IO (io), 4 IO (io), 5 IO (io), 6 IO (io), 7 IO (io), 8 IO (io), 9 MODE (in), 10 VCC (power), 11 IO (io), 12 IO (io), 13 IO (io), 14 IO (io), 15 GND (power), 16 IO (io), 17 IO (io), 18 VCC (power), 19 GND (power), 20 IO (io), 21 IO (io), 22 IO (io), 23 IO (io), 24 IO (io), 25 IO (io), 26 IO (io), 27 IO (io), 28 VCC (power), 29 VCC (power), 30 IO (io), 31 IO (io), 32 IO (io), 33 IO (io), 34 IO (io), 35 IO (io), 36 IO (io), 37 IO (io), 38 IO (io), 39 IO (io), 40 GND (power), 41 IO (io), 42 IO (io), 43 IO (io), 44 IO (io), 45 IO (io), 46 VCC (power), 47 IO (io), 48 IO (io), 49 IO (io), 50 IO (io), 51 IO (io), 52 IO (io), 53 IO (io), 54 IO (io), 55 IO (io), 56 IO (io), 57 IO (io), 58 PRB/IO (io), 59 GND (power), 60 VCC (power), 61 IO (io), 62 HCLK, IO (io), 63 GND (power), 64 IO (io), 65 IO (io), 66 IO (io), 67 IO (io), 68 IO (io), 69 IO (io), 70 IO (io), 71 IO (io), 72 IO (io), 73 IO (io), 74 IO (io), 75 VCC (power), 76 IO (io), 77 IO (io), 78 IO (io), 79 IO (io), 80 IOPCL, IO (io), 81 GND (power), 82 IO (io), 83 IO (io), 84 IO (io), 85 IO (io), 86 IO (io), 87 IO (io), 88 IO (io), 89 IO (io), 90 VCC (power), 91 VCC (power), 92 IO (io), 93 IO (io), 94 IO (io), 95 IO (io), 96 IO (io), 97 IO (io), 98 GND (power), 99 VCC (power), 100 IO (io), 101 IO (io), 102 IO (io), 103 GND (power), 104 IO (io), 105 IO (io), 106 IO (io), 107 IO (io), 108 IO (io), 109 IO (io), 110 VCC (power), 111 GND (power), 112 VCC (power), 113 IO (io), 114 IO (io), 115 IO (io), 116 IO (io), 117 IO (io), 118 IO (io), 119 IO (io), 120 IOCLK, IO (io), 121 GND (power), 122 IO (io), 123 IO (io), 124 IO (io), 125 IO (io), 126 IO (io), 127 IO (io), 128 IO (io), 129 IO (io), 130 IO (io), 131 IO (io), 132 IO (io), 133 IO (io), 134 IO (io), 135 IO (io), 136 CLKA/IO (io), 137 CLKB/IO (io), 138 VCC (power), 139 GND (power), 140 VCC (power), 141 GND (power), 142 PRA/IO (io), 143 IO (io), 144 IO (io), 145 IO (io), 146 IO (io), 147 IO (io), 148 IO (io), 149 IO (io), 150 IO (io), 151 IO (io), 152 IO (io), 153 IO (io), 154 VCC (power), 155 IO (io), 156 IO (io), 157 IO (io), 158 IO (io), 159 IO (io), 160 DCLK/IO (io)

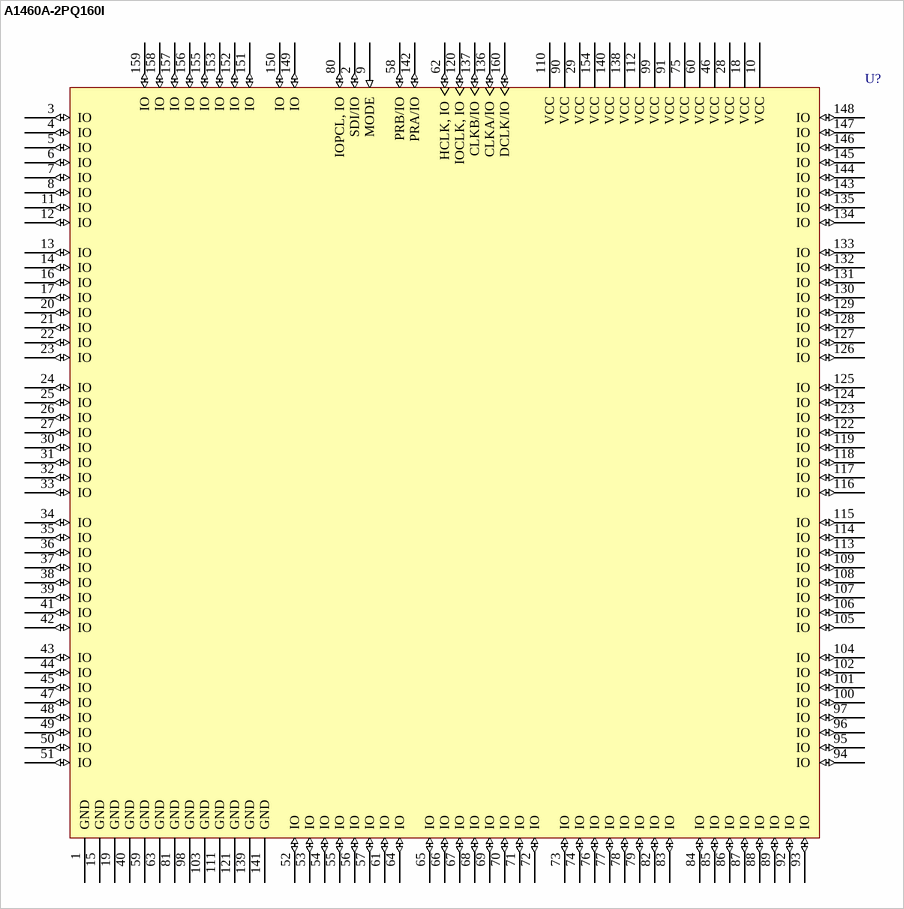
[diagram p47: symbol A1460A-2PQ160I]

## A1460A-2PQ160I
designator U?
ACT 3 Series 5V FPGA, 131 User I/Os, 160 pin PQFP, Speed Grade 2, Industrial Grade; Published: 24-Nov-2000; LatestRevisionDate: 13-Apr-2006; LatestRevisionNote: IPC-7351 Footprint Added.; DatasheetVersion: Sep-1997; PackageVersion: v9.2, Apr-2006; PackageReference: PQ160; Publisher: Altium Limited; PackageDescription: 160-Pin Plastic Quad Flat Pack (PQ160); Code_JEDEC: MS-022-DD-1; Code_IPC: QFP65P3120X3120-160; ComponentLink1Description: Manufacturer Link; ComponentLink1URL: http://www.actel.com/; ComponentLink2Description: DataSheet; ComponentLink2URL: http://www.actel.com/documents/ACT3DS.pdf
footprint PQ160_N (QFP, 160-Leads, Body 28 x 28mm, Pitch 0.65mm, IPC Medium Density)
footprint PQ160_L (QFP, 160-Leads, Body 28 x 28mm, Pitch 0.65mm, IPC High Density)
footprint PQ160_M (QFP, 160-Leads, Body 28 x 28mm, Pitch 0.65mm, IPC Low Density)
3D model A1460A-PQ160 (160-Pin Plastic Quad Flat Pack (PQ160))
pins: 1 GND (power), 2 SDI/IO (io), 3 IO (io), 4 IO (io), 5 IO (io), 6 IO (io), 7 IO (io), 8 IO (io), 9 MODE (in), 10 VCC (power), 11 IO (io), 12 IO (io), 13 IO (io), 14 IO (io), 15 GND (power), 16 IO (io), 17 IO (io), 18 VCC (power), 19 GND (power), 20 IO (io), 21 IO (io), 22 IO (io), 23 IO (io), 24 IO (io), 25 IO (io), 26 IO (io), 27 IO (io), 28 VCC (power), 29 VCC (power), 30 IO (io), 31 IO (io), 32 IO (io), 33 IO (io), 34 IO (io), 35 IO (io), 36 IO (io), 37 IO (io), 38 IO (io), 39 IO (io), 40 GND (power), 41 IO (io), 42 IO (io), 43 IO (io), 44 IO (io), 45 IO (io), 46 VCC (power), 47 IO (io), 48 IO (io), 49 IO (io), 50 IO (io), 51 IO (io), 52 IO (io), 53 IO (io), 54 IO (io), 55 IO (io), 56 IO (io), 57 IO (io), 58 PRB/IO (io), 59 GND (power), 60 VCC (power), 61 IO (io), 62 HCLK, IO (io), 63 GND (power), 64 IO (io), 65 IO (io), 66 IO (io), 67 IO (io), 68 IO (io), 69 IO (io), 70 IO (io), 71 IO (io), 72 IO (io), 73 IO (io), 74 IO (io), 75 VCC (power), 76 IO (io), 77 IO (io), 78 IO (io), 79 IO (io), 80 IOPCL, IO (io), 81 GND (power), 82 IO (io), 83 IO (io), 84 IO (io), 85 IO (io), 86 IO (io), 87 IO (io), 88 IO (io), 89 IO (io), 90 VCC (power), 91 VCC (power), 92 IO (io), 93 IO (io), 94 IO (io), 95 IO (io), 96 IO (io), 97 IO (io), 98 GND (power), 99 VCC (power), 100 IO (io), 101 IO (io), 102 IO (io), 103 GND (power), 104 IO (io), 105 IO (io), 106 IO (io), 107 IO (io), 108 IO (io), 109 IO (io), 110 VCC (power), 111 GND (power), 112 VCC (power), 113 IO (io), 114 IO (io), 115 IO (io), 116 IO (io), 117 IO (io), 118 IO (io), 119 IO (io), 120 IOCLK, IO (io), 121 GND (power), 122 IO (io), 123 IO (io), 124 IO (io), 125 IO (io), 126 IO (io), 127 IO (io), 128 IO (io), 129 IO (io), 130 IO (io), 131 IO (io), 132 IO (io), 133 IO (io), 134 IO (io), 135 IO (io), 136 CLKA/IO (io), 137 CLKB/IO (io), 138 VCC (power), 139 GND (power), 140 VCC (power), 141 GND (power), 142 PRA/IO (io), 143 IO (io), 144 IO (io), 145 IO (io), 146 IO (io), 147 IO (io), 148 IO (io), 149 IO (io), 150 IO (io), 151 IO (io), 152 IO (io), 153 IO (io), 154 VCC (power), 155 IO (io), 156 IO (io), 157 IO (io), 158 IO (io), 159 IO (io), 160 DCLK/IO (io)

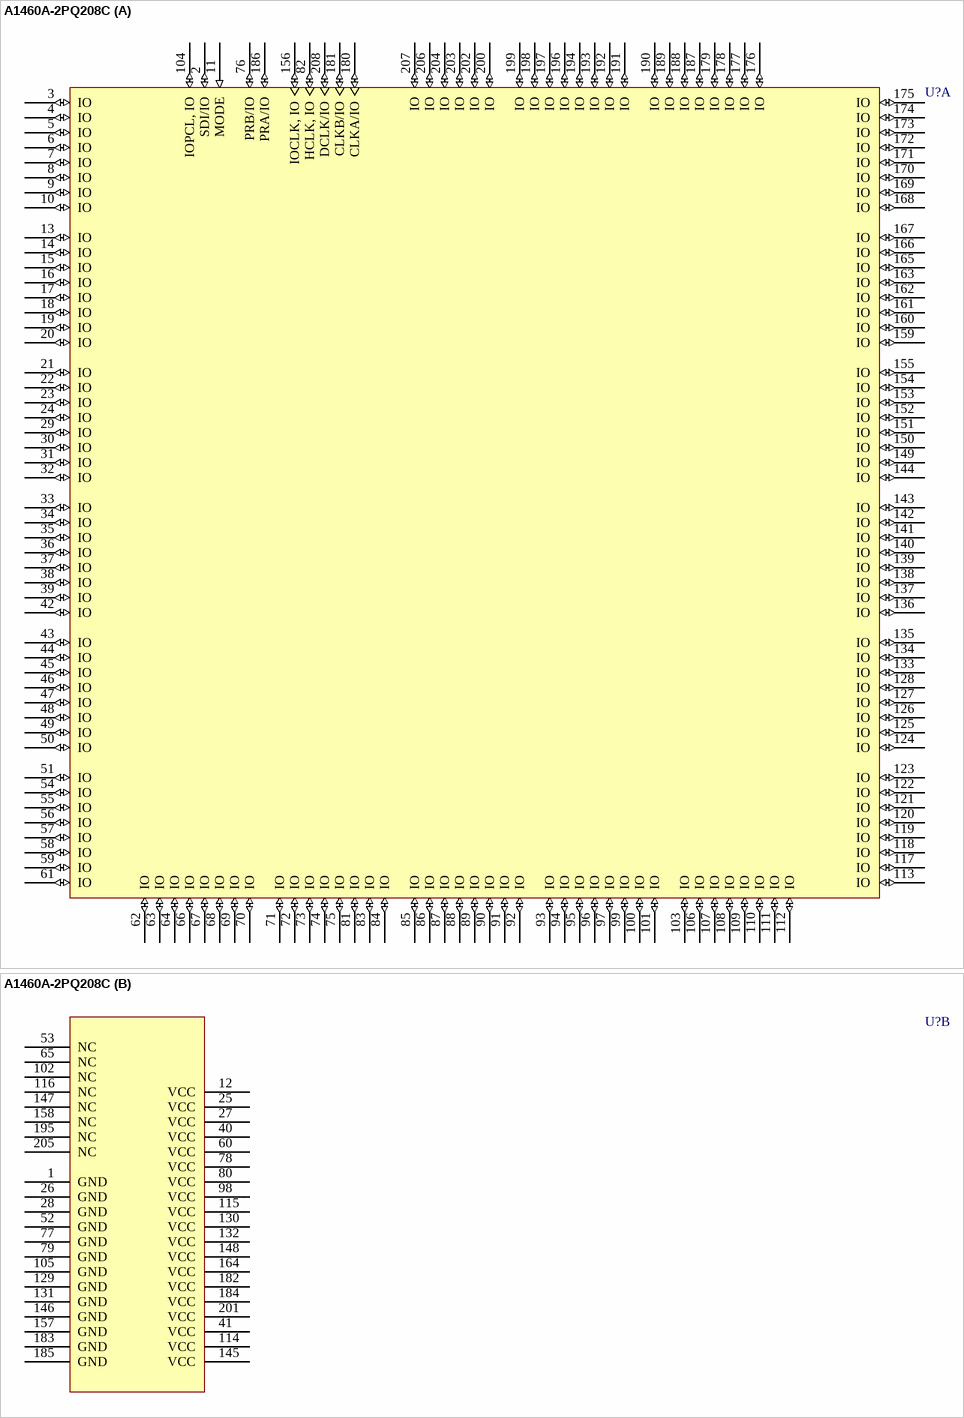
[diagram p48: symbol A1460A-2PQ208C]

## A1460A-2PQ208C
designator U?
ACT 3 Series 5V FPGA, 167 User I/Os, 208 pin PQFP, Speed Grade 2, Commercial Grade; Published: 24-Nov-2000; LatestRevisionDate: 13-Apr-2006; LatestRevisionNote: IPC-7351 Footprint Added.; DatasheetVersion: Sep-1997; PackageVersion: v9.2, Apr-2006; PackageReference: PQ208; Publisher: Altium Limited; PackageDescription: 208-Pin Plastic Quad Flat Pack (PQ208); Code_JEDEC: MS-029-FA-1; ComponentLink1Description: Manufacturer Link; ComponentLink1URL: http://www.actel.com/; ComponentLink2Description: DataSheet; ComponentLink2URL: http://www.actel.com/documents/ACT3DS.pdf
footprint PQ208_N (Shrink QFP, 208-Leads, Body 28x28mm, Pitch 0.5mm, IPC Medium Density)
footprint PQ208_L (Shrink QFP, 208-Leads, Body 28x28mm, Pitch 0.5mm, IPC High Density)
footprint PQ208_M (Shrink QFP, 208-Leads, Body 28x28mm, Pitch 0.5mm, IPC Low Density)
3D model A1460A-PQ208 (208-Pin Plastic Quad Flat Pack (PQ208))
part A pins: 2 SDI/IO (io), 3 IO (io), 4 IO (io), 5 IO (io), 6 IO (io), 7 IO (io), 8 IO (io), 9 IO (io), 10 IO (io), 11 MODE (in), 13 IO (io), 14 IO (io), 15 IO (io), 16 IO (io), 17 IO (io), 18 IO (io), 19 IO (io), 20 IO (io), 21 IO (io), 22 IO (io), 23 IO (io), 24 IO (io), 29 IO (io), 30 IO (io), 31 IO (io), 32 IO (io), 33 IO (io), 34 IO (io), 35 IO (io), 36 IO (io), 37 IO (io), 38 IO (io), 39 IO (io), 42 IO (io), 43 IO (io), 44 IO (io), 45 IO (io), 46 IO (io), 47 IO (io), 48 IO (io), 49 IO (io), 50 IO (io), 51 IO (io), 54 IO (io), 55 IO (io), 56 IO (io), 57 IO (io), 58 IO (io), 59 IO (io), 61 IO (io), 62 IO (io), 63 IO (io), 64 IO (io), 66 IO (io), 67 IO (io), 68 IO (io), 69 IO (io), 70 IO (io), 71 IO (io), 72 IO (io), 73 IO (io), 74 IO (io), 75 IO (io), 76 PRB/IO (io), 81 IO (io), 82 HCLK, IO (io), 83 IO (io), 84 IO (io), 85 IO (io), 86 IO (io), 87 IO (io), 88 IO (io), 89 IO (io), 90 IO (io), 91 IO (io), 92 IO (io), 93 IO (io), 94 IO (io), 95 IO (io), 96 IO (io), 97 IO (io), 99 IO (io), 100 IO (io), 101 IO (io), 103 IO (io), 104 IOPCL, IO (io), 106 IO (io), 107 IO (io), 108 IO (io), 109 IO (io), 110 IO (io), 111 IO (io), 112 IO (io), 113 IO (io), 117 IO (io), 118 IO (io), 119 IO (io), 120 IO (io), 121 IO (io), 122 IO (io), 123 IO (io), 124 IO (io), 125 IO (io), 126 IO (io), 127 IO (io), 128 IO (io), 133 IO (io), 134 IO (io), 135 IO (io), 136 IO (io), 137 IO (io), 138 IO (io), 139 IO (io), 140 IO (io), 141 IO (io), 142 IO (io), 143 IO (io), 144 IO (io), 149 IO (io), 150 IO (io), 151 IO (io), 152 IO (io), 153 IO (io), 154 IO (io), 155 IO (io), 156 IOCLK, IO (io), 159 IO (io), 160 IO (io), 161 IO (io), 162 IO (io), 163 IO (io), 165 IO (io), 166 IO (io), 167 IO (io), 168 IO (io), 169 IO (io), 170 IO (io), 171 IO (io), 172 IO (io), 173 IO (io), 174 IO (io), 175 IO (io), 176 IO (io), 177 IO (io), 178 IO (io), 179 IO (io), 180 CLKA/IO (io), 181 CLKB/IO (io), 186 PRA/IO (io), 187 IO (io), 188 IO (io), 189 IO (io), 190 IO (io), 191 IO (io), 192 IO (io), 193 IO (io), 194 IO (io), 196 IO (io), 197 IO (io), 198 IO (io), 199 IO (io), 200 IO (io), 202 IO (io), 203 IO (io), 204 IO (io), 206 IO (io), 207 IO (io), 208 DCLK/IO (io)
part B pins: 1 GND (power), 12 VCC (power), 25 VCC (power), 26 GND (power), 27 VCC (power), 28 GND (power), 40 VCC (power), 41 VCC (power), 52 GND (power), 53 NC, 60 VCC (power), 65 NC, 77 GND (power), 78 VCC (power), 79 GND (power), 80 VCC (power), 98 VCC (power), 102 NC, 105 GND (power), 114 VCC (power), 115 VCC (power), 116 NC, 129 GND (power), 130 VCC (power), 131 GND (power), 132 VCC (power), 145 VCC (power), 146 GND (power), 147 NC, 148 VCC (power), 157 GND (power), 158 NC, 164 VCC (power), 182 VCC (power), 183 GND (power), 184 VCC (power), 185 GND (power), 195 NC, 201 VCC (power), 205 NC

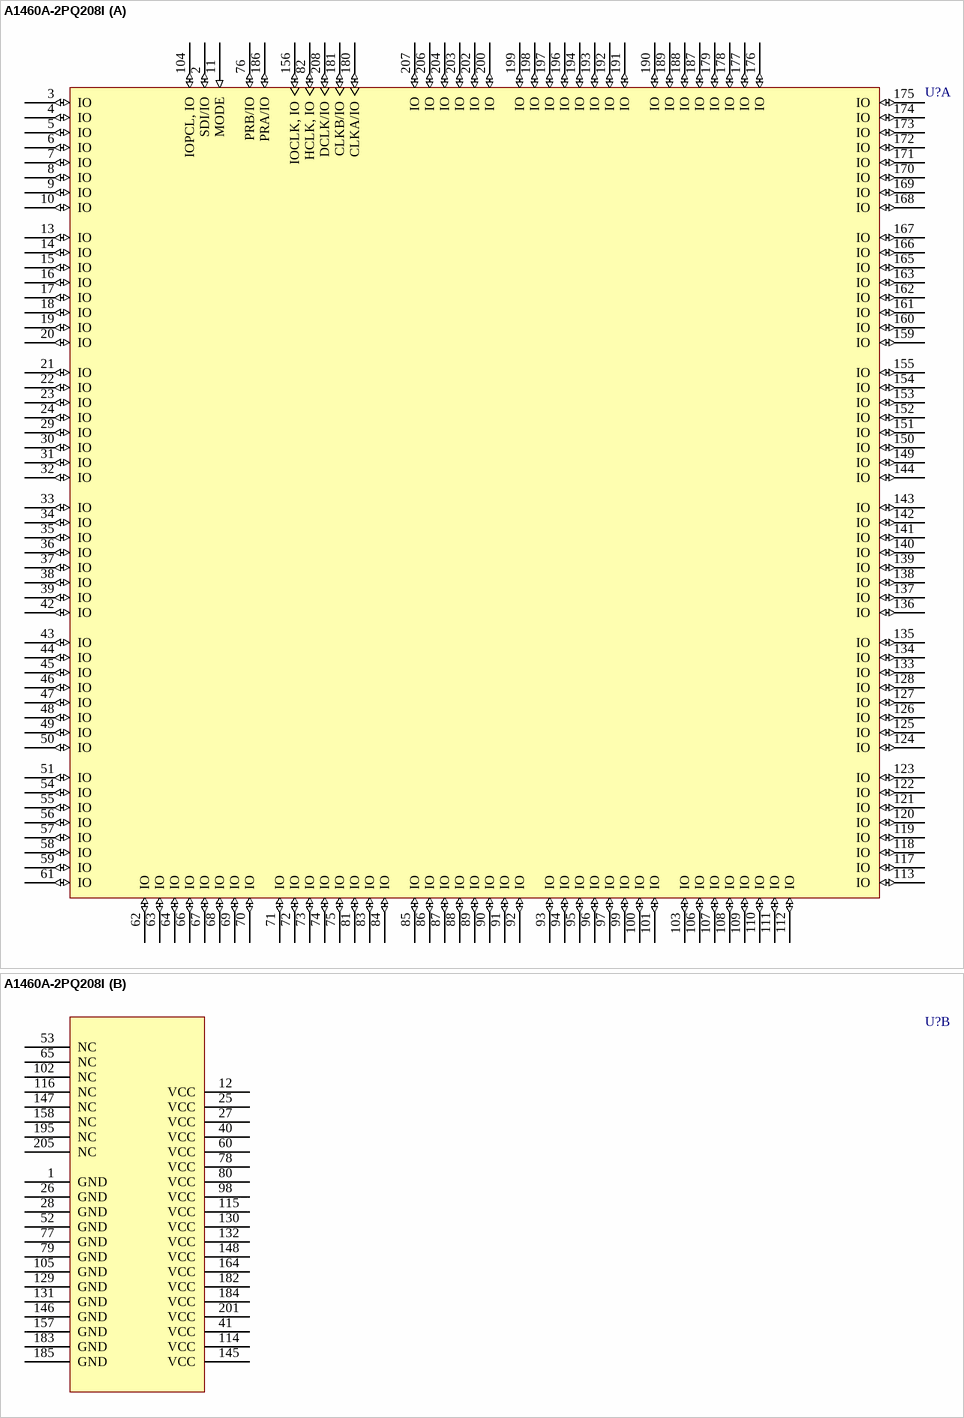
[diagram p49: symbol A1460A-2PQ208I]

## A1460A-2PQ208I
designator U?
ACT 3 Series 5V FPGA, 167 User I/Os, 208 pin PQFP, Speed Grade 2, Industrial Grade; Published: 24-Nov-2000; LatestRevisionDate: 13-Apr-2006; LatestRevisionNote: IPC-7351 Footprint Added.; DatasheetVersion: Sep-1997; PackageVersion: v9.2, Apr-2006; PackageReference: PQ208; Publisher: Altium Limited; PackageDescription: 208-Pin Plastic Quad Flat Pack (PQ208); Code_JEDEC: MS-029-FA-1; ComponentLink1Description: Manufacturer Link; ComponentLink1URL: http://www.actel.com/; ComponentLink2Description: DataSheet; ComponentLink2URL: http://www.actel.com/documents/ACT3DS.pdf
footprint PQ208_N (Shrink QFP, 208-Leads, Body 28x28mm, Pitch 0.5mm, IPC Medium Density)
footprint PQ208_L (Shrink QFP, 208-Leads, Body 28x28mm, Pitch 0.5mm, IPC High Density)
footprint PQ208_M (Shrink QFP, 208-Leads, Body 28x28mm, Pitch 0.5mm, IPC Low Density)
3D model A1460A-PQ208 (208-Pin Plastic Quad Flat Pack (PQ208))
part A pins: 2 SDI/IO (io), 3 IO (io), 4 IO (io), 5 IO (io), 6 IO (io), 7 IO (io), 8 IO (io), 9 IO (io), 10 IO (io), 11 MODE (in), 13 IO (io), 14 IO (io), 15 IO (io), 16 IO (io), 17 IO (io), 18 IO (io), 19 IO (io), 20 IO (io), 21 IO (io), 22 IO (io), 23 IO (io), 24 IO (io), 29 IO (io), 30 IO (io), 31 IO (io), 32 IO (io), 33 IO (io), 34 IO (io), 35 IO (io), 36 IO (io), 37 IO (io), 38 IO (io), 39 IO (io), 42 IO (io), 43 IO (io), 44 IO (io), 45 IO (io), 46 IO (io), 47 IO (io), 48 IO (io), 49 IO (io), 50 IO (io), 51 IO (io), 54 IO (io), 55 IO (io), 56 IO (io), 57 IO (io), 58 IO (io), 59 IO (io), 61 IO (io), 62 IO (io), 63 IO (io), 64 IO (io), 66 IO (io), 67 IO (io), 68 IO (io), 69 IO (io), 70 IO (io), 71 IO (io), 72 IO (io), 73 IO (io), 74 IO (io), 75 IO (io), 76 PRB/IO (io), 81 IO (io), 82 HCLK, IO (io), 83 IO (io), 84 IO (io), 85 IO (io), 86 IO (io), 87 IO (io), 88 IO (io), 89 IO (io), 90 IO (io), 91 IO (io), 92 IO (io), 93 IO (io), 94 IO (io), 95 IO (io), 96 IO (io), 97 IO (io), 99 IO (io), 100 IO (io), 101 IO (io), 103 IO (io), 104 IOPCL, IO (io), 106 IO (io), 107 IO (io), 108 IO (io), 109 IO (io), 110 IO (io), 111 IO (io), 112 IO (io), 113 IO (io), 117 IO (io), 118 IO (io), 119 IO (io), 120 IO (io), 121 IO (io), 122 IO (io), 123 IO (io), 124 IO (io), 125 IO (io), 126 IO (io), 127 IO (io), 128 IO (io), 133 IO (io), 134 IO (io), 135 IO (io), 136 IO (io), 137 IO (io), 138 IO (io), 139 IO (io), 140 IO (io), 141 IO (io), 142 IO (io), 143 IO (io), 144 IO (io), 149 IO (io), 150 IO (io), 151 IO (io), 152 IO (io), 153 IO (io), 154 IO (io), 155 IO (io), 156 IOCLK, IO (io), 159 IO (io), 160 IO (io), 161 IO (io), 162 IO (io), 163 IO (io), 165 IO (io), 166 IO (io), 167 IO (io), 168 IO (io), 169 IO (io), 170 IO (io), 171 IO (io), 172 IO (io), 173 IO (io), 174 IO (io), 175 IO (io), 176 IO (io), 177 IO (io), 178 IO (io), 179 IO (io), 180 CLKA/IO (io), 181 CLKB/IO (io), 186 PRA/IO (io), 187 IO (io), 188 IO (io), 189 IO (io), 190 IO (io), 191 IO (io), 192 IO (io), 193 IO (io), 194 IO (io), 196 IO (io), 197 IO (io), 198 IO (io), 199 IO (io), 200 IO (io), 202 IO (io), 203 IO (io), 204 IO (io), 206 IO (io), 207 IO (io), 208 DCLK/IO (io)
part B pins: 1 GND (power), 12 VCC (power), 25 VCC (power), 26 GND (power), 27 VCC (power), 28 GND (power), 40 VCC (power), 41 VCC (power), 52 GND (power), 53 NC, 60 VCC (power), 65 NC, 77 GND (power), 78 VCC (power), 79 GND (power), 80 VCC (power), 98 VCC (power), 102 NC, 105 GND (power), 114 VCC (power), 115 VCC (power), 116 NC, 129 GND (power), 130 VCC (power), 131 GND (power), 132 VCC (power), 145 VCC (power), 146 GND (power), 147 NC, 148 VCC (power), 157 GND (power), 158 NC, 164 VCC (power), 182 VCC (power), 183 GND (power), 184 VCC (power), 185 GND (power), 195 NC, 201 VCC (power), 205 NC

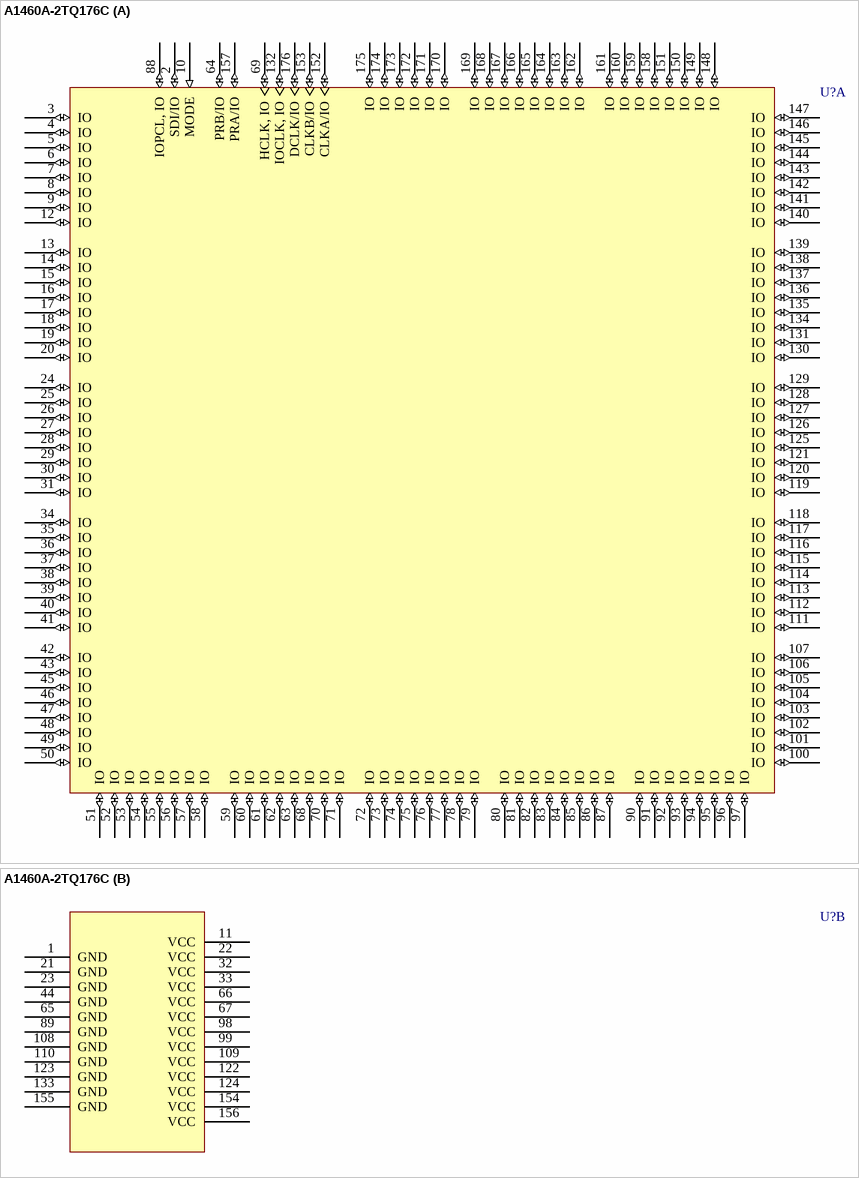
[diagram p50: symbol A1460A-2TQ176C]

## A1460A-2TQ176C
designator U?
ACT 3 Series 5V FPGA, 151 User I/Os, 176 pin TQFP, Speed Grade 2, Commercial Grade; Published: 24-Nov-2000; LatestRevisionDate: 13-Apr-2006; LatestRevisionNote: IPC-7351 Footprint Added.; DatasheetVersion: Sep-1997; PackageVersion: v9.2, Apr-2006; PackageReference: TQ176; Publisher: Altium Limited; PackageDescription: 176-Pin Plastic Quad Flat Pack (TQ176); Code_JEDEC: MS-026-BCA; ComponentLink1Description: Manufacturer Link; ComponentLink1URL: http://www.actel.com/; ComponentLink2Description: DataSheet; ComponentLink2URL: http://www.actel.com/documents/ACT3DS.pdf
footprint TQ176_N (Thin QFP, 176-Leads, Body 24x24mm, Pitch 0.5mm, IPC Medium Density)
footprint TQ176_L (Thin QFP, 176-Leads, Body 24x24mm, Pitch 0.5mm, IPC High Density)
footprint TQ176_M (Thin QFP, 176-Leads, Body 24x24mm, Pitch 0.5mm, IPC Low Density)
3D model A1460A-TQ176 (176-Pin Plastic Quad Flat Pack (TQ176))
part A pins: 2 SDI/IO (io), 3 IO (io), 4 IO (io), 5 IO (io), 6 IO (io), 7 IO (io), 8 IO (io), 9 IO (io), 10 MODE (in), 12 IO (io), 13 IO (io), 14 IO (io), 15 IO (io), 16 IO (io), 17 IO (io), 18 IO (io), 19 IO (io), 20 IO (io), 24 IO (io), 25 IO (io), 26 IO (io), 27 IO (io), 28 IO (io), 29 IO (io), 30 IO (io), 31 IO (io), 34 IO (io), 35 IO (io), 36 IO (io), 37 IO (io), 38 IO (io), 39 IO (io), 40 IO (io), 41 IO (io), 42 IO (io), 43 IO (io), 45 IO (io), 46 IO (io), 47 IO (io), 48 IO (io), 49 IO (io), 50 IO (io), 51 IO (io), 52 IO (io), 53 IO (io), 54 IO (io), 55 IO (io), 56 IO (io), 57 IO (io), 58 IO (io), 59 IO (io), 60 IO (io), 61 IO (io), 62 IO (io), 63 IO (io), 64 PRB/IO (io), 68 IO (io), 69 HCLK, IO (io), 70 IO (io), 71 IO (io), 72 IO (io), 73 IO (io), 74 IO (io), 75 IO (io), 76 IO (io), 77 IO (io), 78 IO (io), 79 IO (io), 80 IO (io), 81 IO (io), 82 IO (io), 83 IO (io), 84 IO (io), 85 IO (io), 86 IO (io), 87 IO (io), 88 IOPCL, IO (io), 90 IO (io), 91 IO (io), 92 IO (io), 93 IO (io), 94 IO (io), 95 IO (io), 96 IO (io), 97 IO (io), 100 IO (io), 101 IO (io), 102 IO (io), 103 IO (io), 104 IO (io), 105 IO (io), 106 IO (io), 107 IO (io), 111 IO (io), 112 IO (io), 113 IO (io), 114 IO (io), 115 IO (io), 116 IO (io), 117 IO (io), 118 IO (io), 119 IO (io), 120 IO (io), 121 IO (io), 125 IO (io), 126 IO (io), 127 IO (io), 128 IO (io), 129 IO (io), 130 IO (io), 131 IO (io), 132 IOCLK, IO (io), 134 IO (io), 135 IO (io), 136 IO (io), 137 IO (io), 138 IO (io), 139 IO (io), 140 IO (io), 141 IO (io), 142 IO (io), 143 IO (io), 144 IO (io), 145 IO (io), 146 IO (io), 147 IO (io), 148 IO (io), 149 IO (io), 150 IO (io), 151 IO (io), 152 CLKA/IO (io), 153 CLKB/IO (io), 157 PRA/IO (io), 158 IO (io), 159 IO (io), 160 IO (io), 161 IO (io), 162 IO (io), 163 IO (io), 164 IO (io), 165 IO (io), 166 IO (io), 167 IO (io), 168 IO (io), 169 IO (io), 170 IO (io), 171 IO (io), 172 IO (io), 173 IO (io), 174 IO (io), 175 IO (io), 176 DCLK/IO (io)
part B pins: 1 GND (power), 11 VCC (power), 21 GND (power), 22 VCC (power), 23 GND (power), 32 VCC (power), 33 VCC (power), 44 GND (power), 65 GND (power), 66 VCC (power), 67 VCC (power), 89 GND (power), 98 VCC (power), 99 VCC (power), 108 GND (power), 109 VCC (power), 110 GND (power), 122 VCC (power), 123 GND (power), 124 VCC (power), 133 GND (power), 154 VCC (power), 155 GND (power), 156 VCC (power)

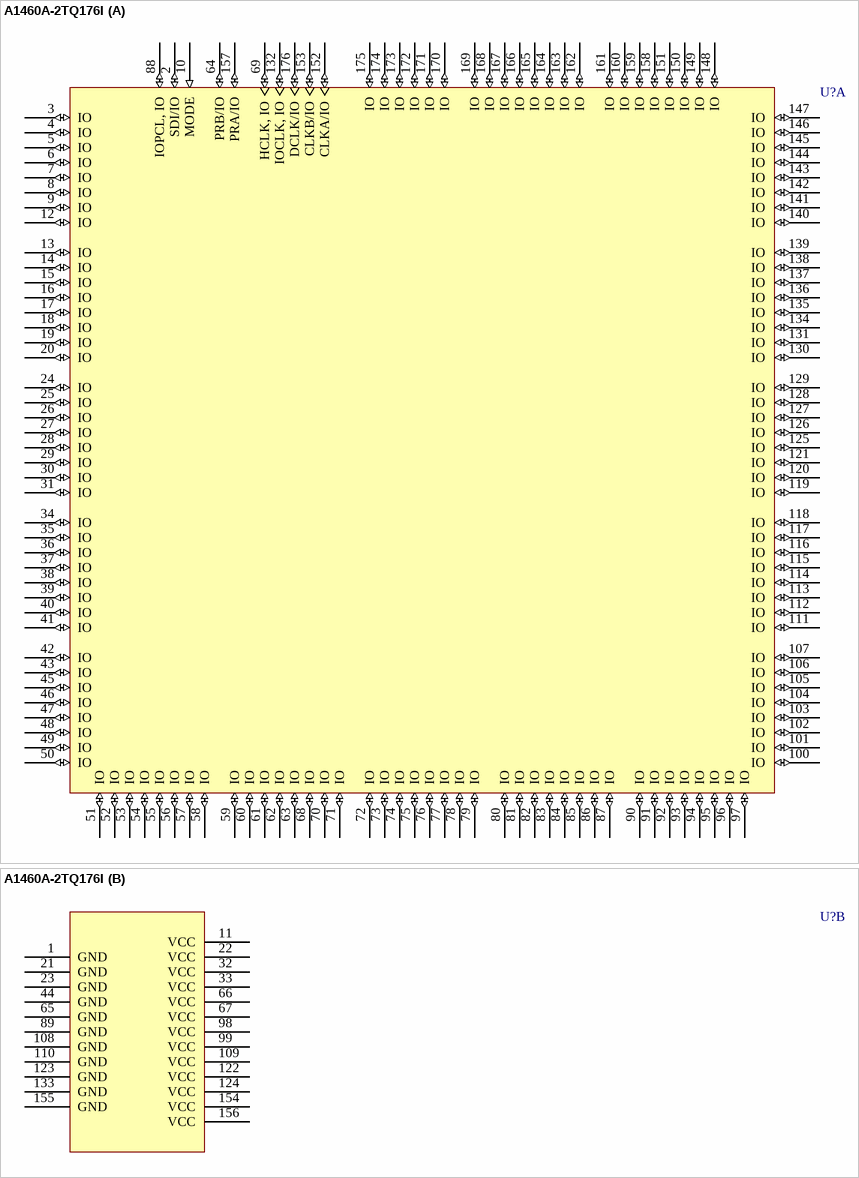
[diagram p51: symbol A1460A-2TQ176I]

## A1460A-2TQ176I
designator U?
ACT 3 Series 5V FPGA, 151 User I/Os, 176 pin TQFP, Speed Grade 2, Industrial Grade; Published: 17-Sep-2003; LatestRevisionDate: 13-Apr-2006; LatestRevisionNote: IPC-7351 Footprint Added.; DatasheetVersion: Sep-1997; PackageVersion: v9.2, Apr-2006; PackageReference: TQ176; Publisher: Altium Limited; PackageDescription: 176-Pin Plastic Quad Flat Pack (TQ176); Code_JEDEC: MS-026-BCA; ComponentLink1Description: Manufacturer Link; ComponentLink1URL: http://www.actel.com/; ComponentLink2Description: DataSheet; ComponentLink2URL: http://www.actel.com/documents/ACT3DS.pdf
footprint TQ176_N (Thin QFP, 176-Leads, Body 24x24mm, Pitch 0.5mm, IPC Medium Density)
footprint TQ176_L (Thin QFP, 176-Leads, Body 24x24mm, Pitch 0.5mm, IPC High Density)
footprint TQ176_M (Thin QFP, 176-Leads, Body 24x24mm, Pitch 0.5mm, IPC Low Density)
3D model A1460A-TQ176 (176-Pin Plastic Quad Flat Pack (TQ176))
part A pins: 2 SDI/IO (io), 3 IO (io), 4 IO (io), 5 IO (io), 6 IO (io), 7 IO (io), 8 IO (io), 9 IO (io), 10 MODE (in), 12 IO (io), 13 IO (io), 14 IO (io), 15 IO (io), 16 IO (io), 17 IO (io), 18 IO (io), 19 IO (io), 20 IO (io), 24 IO (io), 25 IO (io), 26 IO (io), 27 IO (io), 28 IO (io), 29 IO (io), 30 IO (io), 31 IO (io), 34 IO (io), 35 IO (io), 36 IO (io), 37 IO (io), 38 IO (io), 39 IO (io), 40 IO (io), 41 IO (io), 42 IO (io), 43 IO (io), 45 IO (io), 46 IO (io), 47 IO (io), 48 IO (io), 49 IO (io), 50 IO (io), 51 IO (io), 52 IO (io), 53 IO (io), 54 IO (io), 55 IO (io), 56 IO (io), 57 IO (io), 58 IO (io), 59 IO (io), 60 IO (io), 61 IO (io), 62 IO (io), 63 IO (io), 64 PRB/IO (io), 68 IO (io), 69 HCLK, IO (io), 70 IO (io), 71 IO (io), 72 IO (io), 73 IO (io), 74 IO (io), 75 IO (io), 76 IO (io), 77 IO (io), 78 IO (io), 79 IO (io), 80 IO (io), 81 IO (io), 82 IO (io), 83 IO (io), 84 IO (io), 85 IO (io), 86 IO (io), 87 IO (io), 88 IOPCL, IO (io), 90 IO (io), 91 IO (io), 92 IO (io), 93 IO (io), 94 IO (io), 95 IO (io), 96 IO (io), 97 IO (io), 100 IO (io), 101 IO (io), 102 IO (io), 103 IO (io), 104 IO (io), 105 IO (io), 106 IO (io), 107 IO (io), 111 IO (io), 112 IO (io), 113 IO (io), 114 IO (io), 115 IO (io), 116 IO (io), 117 IO (io), 118 IO (io), 119 IO (io), 120 IO (io), 121 IO (io), 125 IO (io), 126 IO (io), 127 IO (io), 128 IO (io), 129 IO (io), 130 IO (io), 131 IO (io), 132 IOCLK, IO (io), 134 IO (io), 135 IO (io), 136 IO (io), 137 IO (io), 138 IO (io), 139 IO (io), 140 IO (io), 141 IO (io), 142 IO (io), 143 IO (io), 144 IO (io), 145 IO (io), 146 IO (io), 147 IO (io), 148 IO (io), 149 IO (io), 150 IO (io), 151 IO (io), 152 CLKA/IO (io), 153 CLKB/IO (io), 157 PRA/IO (io), 158 IO (io), 159 IO (io), 160 IO (io), 161 IO (io), 162 IO (io), 163 IO (io), 164 IO (io), 165 IO (io), 166 IO (io), 167 IO (io), 168 IO (io), 169 IO (io), 170 IO (io), 171 IO (io), 172 IO (io), 173 IO (io), 174 IO (io), 175 IO (io), 176 DCLK/IO (io)
part B pins: 1 GND (power), 11 VCC (power), 21 GND (power), 22 VCC (power), 23 GND (power), 32 VCC (power), 33 VCC (power), 44 GND (power), 65 GND (power), 66 VCC (power), 67 VCC (power), 89 GND (power), 98 VCC (power), 99 VCC (power), 108 GND (power), 109 VCC (power), 110 GND (power), 122 VCC (power), 123 GND (power), 124 VCC (power), 133 GND (power), 154 VCC (power), 155 GND (power), 156 VCC (power)

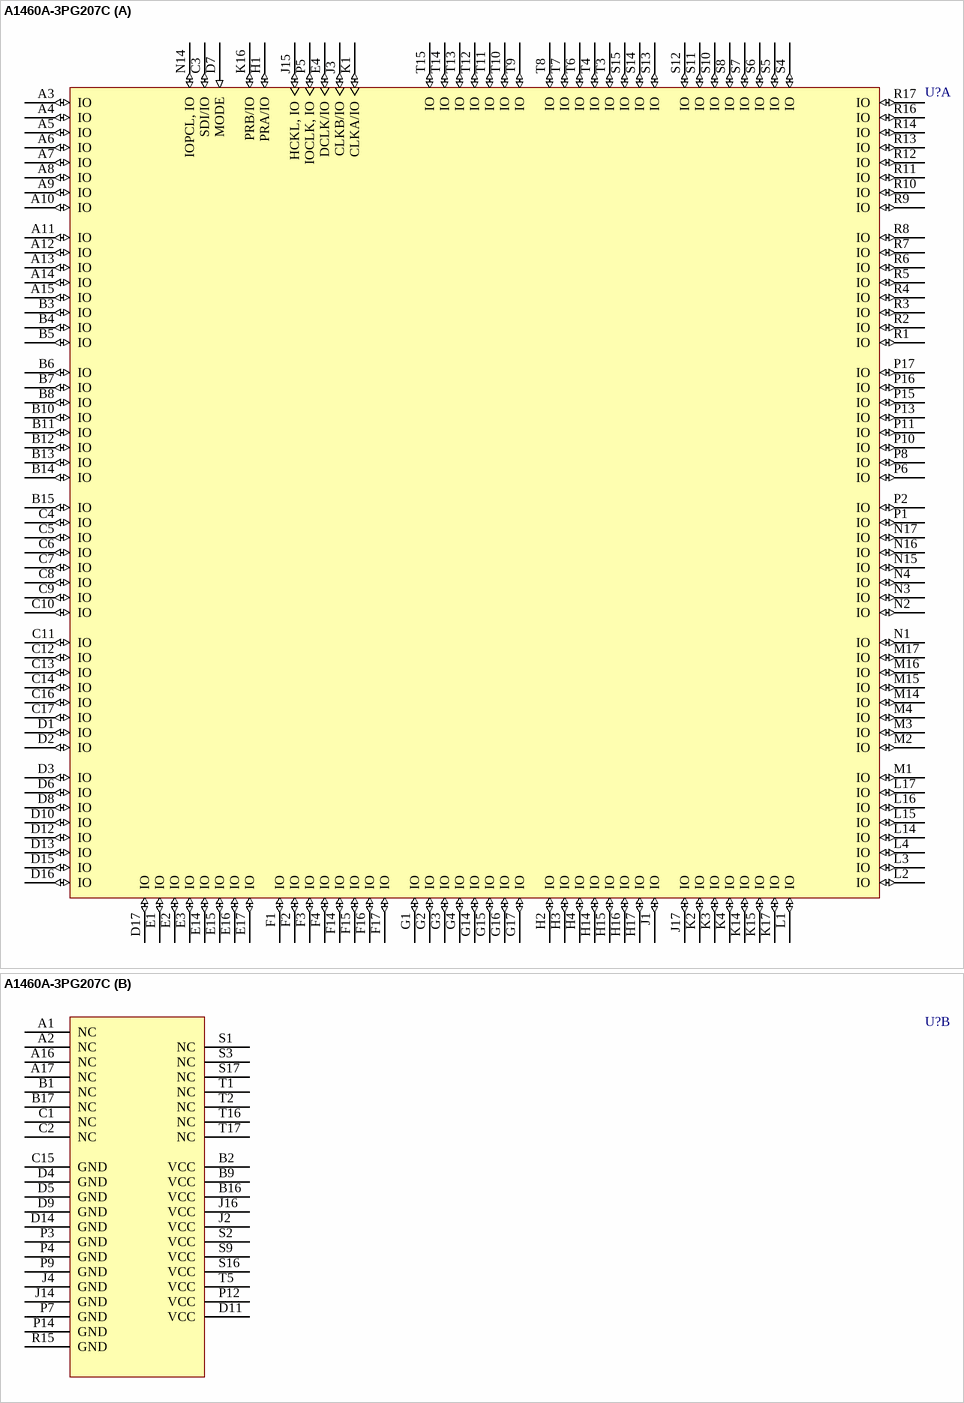
[diagram p52: symbol A1460A-3PG207C]

## A1460A-3PG207C
designator U?
ACT 3 Series 5V FPGA, 168 User I/Os, 207 pin CPGA, Speed Grade 3, Commercial Grade; Published: 24-Nov-2000; LatestRevisionDate: 04-Mar-2005; LatestRevisionNote: Stylized 3D Model Added.; DatasheetVersion: Sep-1997; PackageVersion: v9.2, Apr-2006; PackageReference: PG207; Publisher: Altium Limited; PackageDescription: 207-Pin Ceramic Pin Grid Array (PG207); ComponentLink1Description: Manufacturer Link; ComponentLink1URL: http://www.actel.com/; ComponentLink2Description: DataSheet; ComponentLink2URL: http://www.actel.com/documents/ACT3DS.pdf
footprint PG207 (PGA, 208-Leads, Body 45x45mm, Pitch 2.54mm)
3D model A1460A-PG207 (207-Pin Ceramic Pin Grid Array (PG207))
part A pins: A3 IO (io), A4 IO (io), A5 IO (io), A6 IO (io), A7 IO (io), A8 IO (io), A9 IO (io), A10 IO (io), A11 IO (io), A12 IO (io), A13 IO (io), A14 IO (io), A15 IO (io), B3 IO (io), B4 IO (io), B5 IO (io), B6 IO (io), B7 IO (io), B8 IO (io), B10 IO (io), B11 IO (io), B12 IO (io), B13 IO (io), B14 IO (io), B15 IO (io), C3 SDI/IO (io), C4 IO (io), C5 IO (io), C6 IO (io), C7 IO (io), C8 IO (io), C9 IO (io), C10 IO (io), C11 IO (io), C12 IO (io), C13 IO (io), C14 IO (io), C16 IO (io), C17 IO (io), D1 IO (io), D2 IO (io), D3 IO (io), D6 IO (io), D7 MODE (in), D8 IO (io), D10 IO (io), D12 IO (io), D13 IO (io), D15 IO (io), D16 IO (io), D17 IO (io), E1 IO (io), E2 IO (io), E3 IO (io), E4 DCLK/IO (io), E14 IO (io), E15 IO (io), E16 IO (io), E17 IO (io), F1 IO (io), F2 IO (io), F3 IO (io), F4 IO (io), F14 IO (io), F15 IO (io), F16 IO (io), F17 IO (io), G1 IO (io), G2 IO (io), G3 IO (io), G4 IO (io), G14 IO (io), G15 IO (io), G16 IO (io), G17 IO (io), H1 PRA/IO (io), H2 IO (io), H3 IO (io), H4 IO (io), H14 IO (io), H15 IO (io), H16 IO (io), H17 IO (io), J1 IO (io), J3 CLKB/IO (io), J15 HCKL, IO (io), J17 IO (io), K1 CLKA/IO (io), K2 IO (io), K3 IO (io), K4 IO (io), K14 IO (io), K15 IO (io), K16 PRB/IO (io), K17 IO (io), L1 IO (io), L2 IO (io), L3 IO (io), L4 IO (io), L14 IO (io), L15 IO (io), L16 IO (io), L17 IO (io), M1 IO (io), M2 IO (io), M3 IO (io), M4 IO (io), M14 IO (io), M15 IO (io), M16 IO (io), M17 IO (io), N1 IO (io), N2 IO (io), N3 IO (io), N4 IO (io), N14 IOPCL, IO (io), N15 IO (io), N16 IO (io), N17 IO (io), P1 IO (io), P2 IO (io), P5 IOCLK, IO (io), P6 IO (io), P8 IO (io), P10 IO (io), P11 IO (io), P13 IO (io), P15 IO (io), P16 IO (io), P17 IO (io), R1 IO (io), R2 IO (io), R3 IO (io), R4 IO (io), R5 IO (io), R6 IO (io), R7 IO (io), R8 IO (io), R9 IO (io), R10 IO (io), R11 IO (io), R12 IO (io), R13 IO (io), R14 IO (io), R16 IO (io), R17 IO (io), S4 IO (io), S5 IO (io), S6 IO (io), S7 IO (io), S8 IO (io), S10 IO (io), S11 IO (io), S12 IO (io), S13 IO (io), S14 IO (io), S15 IO (io), T3 IO (io), T4 IO (io), T6 IO (io), T7 IO (io), T8 IO (io), T9 IO (io), T10 IO (io), T11 IO (io), T12 IO (io), T13 IO (io), T14 IO (io), T15 IO (io)
part B pins: A1 NC, A2 NC, A16 NC, A17 NC, B1 NC, B2 VCC (power), B9 VCC (power), B16 VCC (power), B17 NC, C1 NC, C2 NC, C15 GND (power), D4 GND (power), D5 GND (power), D9 GND (power), D11 VCC (power), D14 GND (power), J2 VCC (power), J4 GND (power), J14 GND (power), J16 VCC (power), P3 GND (power), P4 GND (power), P7 GND (power), P9 GND (power), P12 VCC (power), P14 GND (power), R15 GND (power), S1 NC, S2 VCC (power), S3 NC, S9 VCC (power), S16 VCC (power), S17 NC, T1 NC, T2 NC, T5 VCC (power), T16 NC, T17 NC

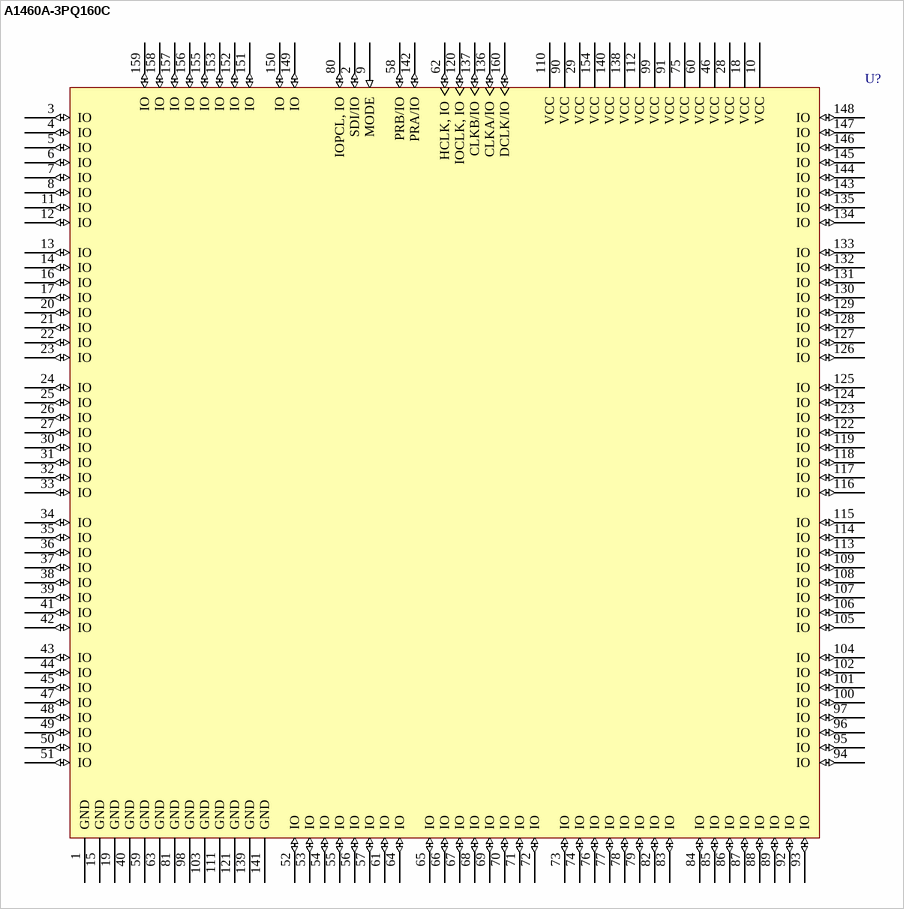
[diagram p53: symbol A1460A-3PQ160C]